# Altium schematic symbol library VC099_V13_20211125_Library.SchLib: 284 symbols (part 8 of 28)
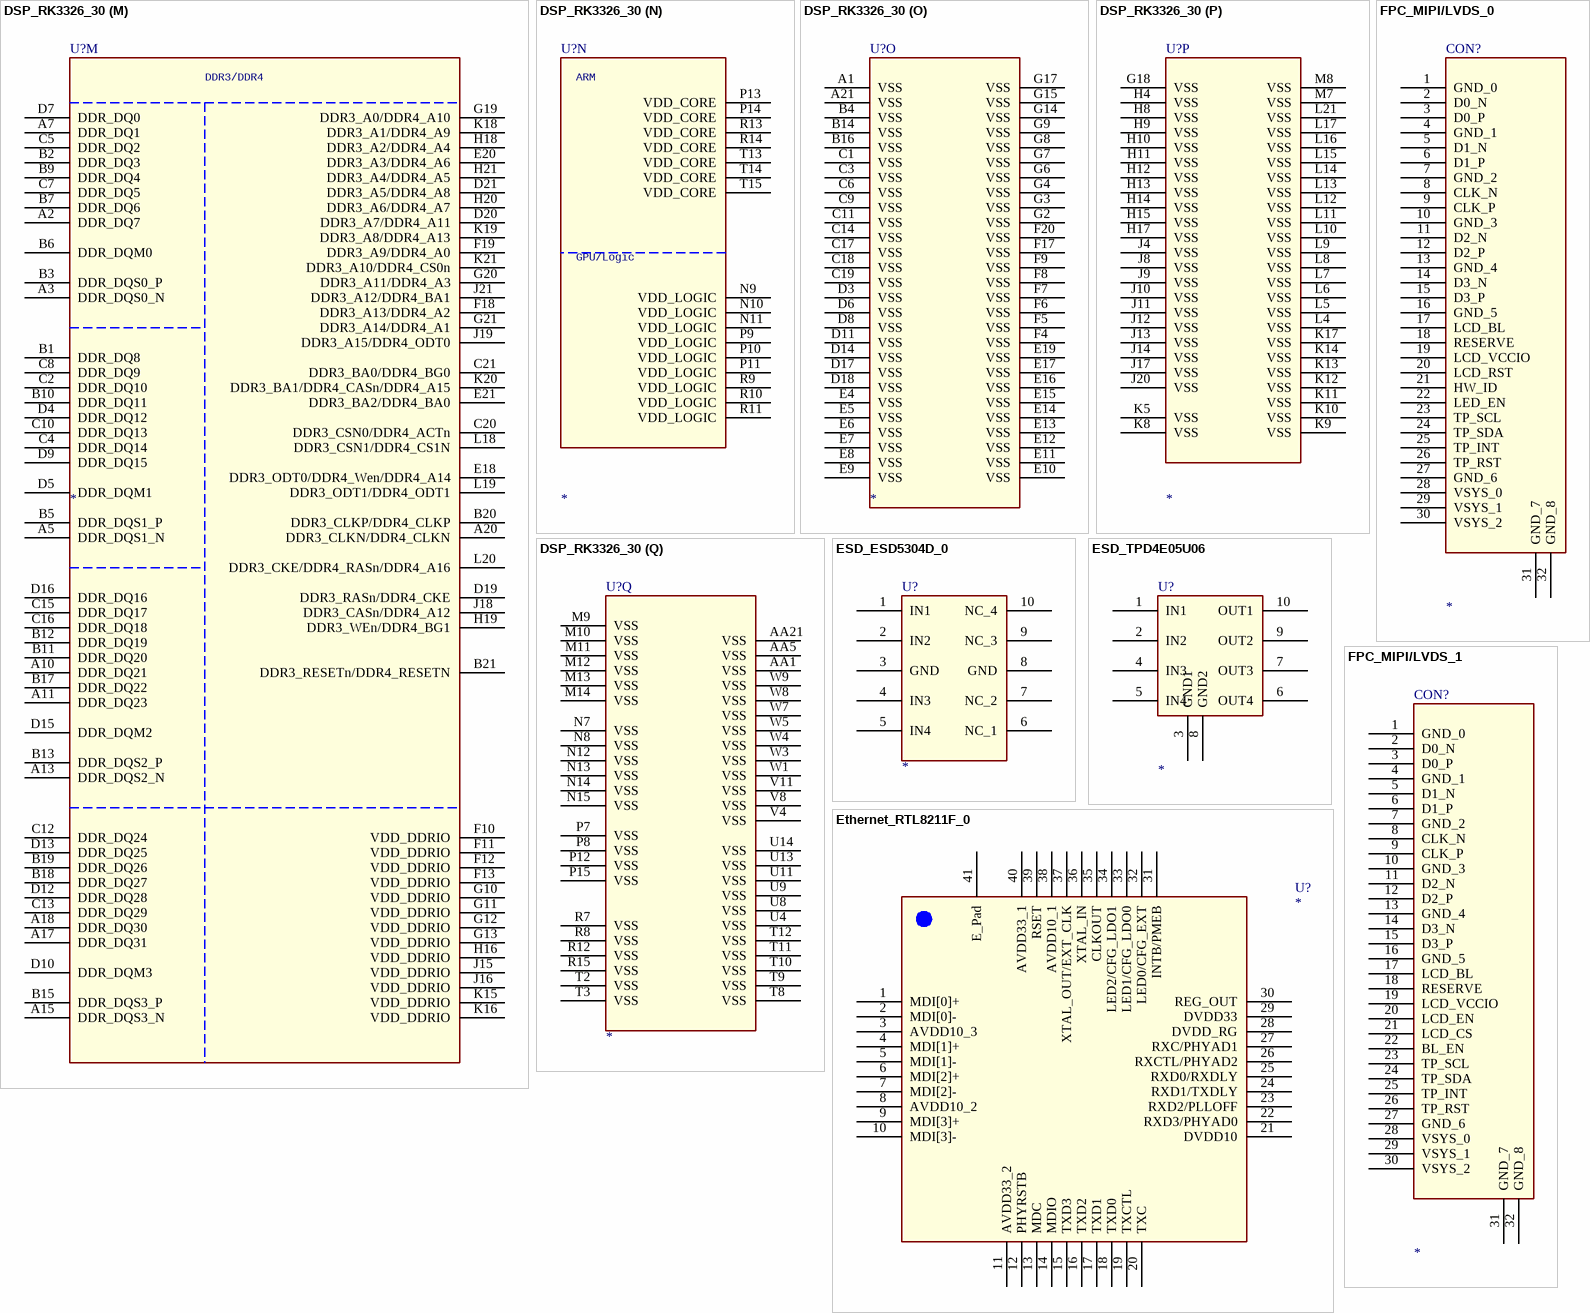
[diagram p370: symbols DSP_RK3326_30 to FPC_MIPI/LVDS_1]

## DSP_RK3326_30
designator U?
footprint RK3228H_21X21
part A pins: AA2 HDMI_TX0P, AA4 HDMI_TX2N, AA8 FEPHY_RXN, AA9 FEPHY_TXN, U5 USB20_AVDD_1V8, U6 FEPHY_AVDD_1V8, V6 FEPHY_AVDD_1V0, V7 FEPHY_EXTRES, W2 HDMI_TXCLKN, Y1 HDMI_TXCLKP, Y2 HDMI_TX0N, Y3 HDMI_TX1N, Y4 HDMI_TX1P, Y5 HDMI_TX2P, Y8 FEPHY_RXP
part B pins: K6 VCCIO_PMU, R1 XIN24M, R3 GPIO0_A2/CLKOUT_GMAC_M0/SPDIF_TX_M2_d, T1 XOUT24M, U3 GPIO0_A4/HDMI_HPD_d, V1 I2C3_SCL/HDMI_SCL_od, V2 HDMI_CEC_od, V3 I2C3_SDA/HDMI_SDA_od
part C pins: K1 USB30_DP, K2 USB30_DM, L3 GPIO0_A0/CLKOUT_WIFI_M0_d, M2 VDAC_IOUT, M3 USB0_ID, M4 HDMI_EXTR, P6 HDMI_AVDD_1V8, R4 CODEC_AVSS, R5 VSS (power), T4 CODEC_VCM
part D pins: AA11 SDMMC1_D0, AA12 SDMMC1_CLK, AA13 GPIO1_A3/SDMMC0_D3/JTAG_TMS_u, U7 VCCIO3, W10 GPIO0_D6/FEPHY_LED_SPEED10/SDMMC0_PWREN_M1_d, W11 GPIO1_A1/SDMMC0_D1/UART2_RX_M0_u, W12 GPIO1_A6/SDMMC0_CLK/TEST_CLK0_d, W13 GPIO1_A2/SDMMC0_D2/JTAG_TCK_u, Y11 SDMMC1_D1, Y12 SDMMC1_CMD, Y13 GPIO1_A4/SDMMC0_CMD_u
part E pins: AA15 GPIO1_B1/UART0_TX/GMAC_TXD0_M1_u, AA17 GPIO1_D0/I2S2_SDI_M0/GMAC_RXER_M1/PDM_SDI1_M1_d, AA19 GPIO1_C0/SDMMC1_D2/GMAC_TXD3_M1_u, AA20 GPIO1_B4/SDMMC1_CLK/GMAC_TXCLK_M1_d, U12 VCCIO4, W15 GPIO1_C5/I2S2_MCLK/GMAC_CLK_M1_d, W16 GPIO1_C6/I2S2_SCLK_M0/GMAC_RXDV_M1/PDM_CLK_M1_u, W17 GPIO1_C7/I2S2_LRCK_TX_M0/GMAC_MDC_M1/PDM_SDI0_M1_d, W18 GPIO1_B7/SDMMC1_D1/GMAC_RXD2_M1_u, W19 GPIO1_B6/SDMMC1_D0/GMAC_RXD3_M1_u, W20 GPIO1_C2/SDMMC1_PWREN/GMAC_CRS_M1_d, W21 GPIO3_C0/EMMC_D5_u, Y15 GPIO1_B0/UART0_RX/GMAC_TXD1_M1_u, Y17 GPIO1_D1/I2S2_SDO_M0/GMAC_TXEN_M1/PDM_SDI2_M1_d, Y19 GPIO1_C1/SDMMC1_D3/GMAC_TXD2_M1_u, Y20 GPIO1_B5/SDMMC1_CMD/GMAC_RXCLK_M1_u, Y21 GPIO1_C3/SDMMC1_DET/GMAC_MDIO_M1/PDM_FSYNC_M1_u
part F pins: M20 GPIO2_D2/USB20_DRV_d, M21 GPIO2_A2/IR_RX/POWERSTATE2_u, P16 EFUSE_VP, P19 GPIO2_A0/UART2_TX_M1/POWERSTATE0_d, P20 GPIO2_A1/UART2_RX_M1/POWERSTATE1_u, P21 NPOR_u, R16 VCCIO5, R17 GPIO2_D1/I2C0_SDA/FEPHY_LED_DATA_M1_u, R18 GPIO2_C2/I2S1_SCLK/PDM_CLK_M0/TSP_D7_M1/CIF_D7_M1_d, R19 GPIO3_C6/EMMC_PWREN_d, R20 GPIO3_C3/EMMC_CMD_u, R21 GPIO3_C5/EMMC_CLKOUT_u, T16 GPIO2_B4/SPI_CSN1_M0/FLASH_VOL_SEL_u, T17 VCCIO2, T18 GPIO3_C1/EMMC_D6_u, T19 GPIO3_C2/EMMC_D7_u, T20 LCD_D16, T21 LCD_D17, U15 VSS (power), U16 GPIO2_C3/I2S1_SDI/PDM_SDI0_M0/CARD_CLK_M1_u, U17 GPIO2_A3/EFUSE_PWREN/POWERSTATE3_u, U18 GPIO2_D7/EMMC_D4_u, U19 GPIO0_A7/EMMC_D0_u, U20 GPIO2_D4/EMMC_D1_u, U21 GPIO2_D5/EMMC_D2_u, V12 GPIO1_D2/I2S2_LRCK_RX_M0/CLKOUT_GMAC_M2/PDM_SDI3_M1_d, V13 GPIO1_B3/UART0_CTSN/GMAC_RXD0_M1_d, V14 GPIO1_D4/CLK32KOUT_M1_d, V15 GPIO2_C0/I2S1_LRCK_RX/TSP_D5_M1/CIF_D5_M1_u, V16 GPIO2_C6/I2S1_SDIO3/PDM_SDI3_M0/CARD_IO_M1_u, V17 GPIO2_C5/I2S1_SDIO2/PDM_SDI2_M0/CARD_DET_M1_u, V18 GPIO2_C4/I2S1_SDIO1/PDM_SDI1_M0/CARD_RST_M1_u, V19 GPIO2_D6/EMMC_D3_u, V20 BIAS, V21 LCD_CLK, W14 GPIO1_B2/UART0_RTSN/GMAC_RXD1_M1_d
part G pins: D1 GPIO3_A5/TSP_D1/CIF_D1/SDMMC0EXT_D1/UART1_RTSN/USB3PHY_DEBUG5_u, D2 GPIO3_A1/TSP_FAIL/CIF_HREF/SDMMC0EXT_DET/SPI_TXD_M2/USB3PHY_DEBUG2/I2S2_SDO_M1_u, E1 GPIO3_A2/TSP_CLK/CIF_CLKIN/SDMMC0EXT_CLK/SPI_RXD_M2/USB3PHY_DEBUG3/I2S2_SDI_M1_d, E2 GPIO3_A4/TSP_D0/CIF_D0/SDMMC0EXT_D0/UART1_TX/USB3PHY_DEBUG4_u, E3 GPIO3_A0/TSP_VALID/CIF_VSYNC/SDMMC0EXT_CMD/SPI_CLK_M2/USB3PHY_DEBUG1/I2S2_SCLK_M1_u, F1 GPIO3_A7/TSP_D3/CIF_D3/SDMMC0EXT_D3/UART1_CTSN/USB3PHY_DEBUG7_u, F2 GPIO3_A6/TSP_D2/CIF_D2/SDMMC0EXT_D2/UART1_RX/USB3PHY_DEBUG6_u, F3 GPIO3_B0/TSP_D4/CIF_D4/SPI_CSN0_M2/I2S2_LRCK_TX_M1/USB3PHY_DEBUG8/I2S2_LRCK_RX_M1_d, H2 USB30_TXN, H3 USB30_TXP, H6 VCCIO6, J2 USB30_RXP, J3 USB30_RXN
part H pins: M15 TEST_d, M16 SARADC_AVDD_1V8, M17 SARADC_IN1, M18 SARADC_IN0, M19 GPIO2_A6/PWM2_u, N16 OTP_VCC18, N17 GPIO2_C7/I2S1_SDO/PDM_FSYNC_M0_u, N18 GPIO2_B7/I2S1_MCLK/TSP_SYNC_M1/CIF_CLKOUT_M1_d, N19 GPIO2_A4/PWM0/I2C1_SDA_u, N20 GPIO2_A5/PWM1/I2C1_SCL_u, P17 GPIO2_D0/I2C0_SCL/FEPHY_LED_LINK_M1_u, P18 GPIO2_C1/I2S1_LRCK_TX/SPDIF_TX_M1/TSP_D6_M1/CIF_D6_M1_u
part I pins: U10 GPIO1_A0/SDMMC0_D0/UART2_TX_M0_u, V9 GPIO0_D3/SPDIF_TX_M0_d, V10 GPIO1_A5/SDMMC0_DETN_u, Y9 FEPHY_TXP
part J pins: M1 PCLK, N1 CODEC_AOR, N2 GPIO_MUTE_d, N3 VSS (power), P2 CODEC_AOL, P3 VSS (power), P4 VDAC_IREF, R2 VSS (power)
part K pins: AA6 USB0_DP, AA7 USB1_DP, T5 USB20_AVDD_3V3, T6 USB20_VBUS, T7 VCCIO1, V5 USB20_DVDD_1V0, W6 USB20_EXTR, Y6 USB0_DM, Y7 USB1_DM
part L pins: G5 USB30_EXTR, H5 PLL_AVDD_1V8, H7 PLL_DVDD_1V0, J5 USB30_AVDD_1V8, J6 USB30_AVDD_3V3, J7 USB30_DVDD_1V0, K3 VSS (power), K7 USB30_VBUS, M5 VDD_PMU, M6 HDMI_AVDD_1V0, N5 CODEC_AVDD_1V8, N6 VDAC_AVDD_1V8
part M pins: A2 DDR_DQ7, A3 DDR_DQS0_N, A5 DDR_DQS1_N, A7 DDR_DQ1, A10 DDR_DQ21, A11 DDR_DQ23, A13 DDR_DQS2_N, A15 DDR_DQS3_N, A17 DDR_DQ31, A18 DDR_DQ30, A20 DDR3_CLKN/DDR4_CLKN, B1 DDR_DQ8, B2 DDR_DQ3, B3 DDR_DQS0_P, B5 DDR_DQS1_P, B6 DDR_DQM0, B7 DDR_DQ6, B9 DDR_DQ4, B10 DDR_DQ11, B11 DDR_DQ20, B12 DDR_DQ19, B13 DDR_DQS2_P, B15 DDR_DQS3_P, B17 DDR_DQ22, B18 DDR_DQ27, B19 DDR_DQ26, B20 DDR3_CLKP/DDR4_CLKP, B21 DDR3_RESETn/DDR4_RESETN, C2 DDR_DQ10, C4 DDR_DQ14, C5 DDR_DQ2, C7 DDR_DQ5, C8 DDR_DQ9, C10 DDR_DQ13, C12 DDR_DQ24, C13 DDR_DQ29, C15 DDR_DQ17, C16 DDR_DQ18, C20 DDR3_CSN0/DDR4_ACTn, C21 DDR3_BA0/DDR4_BG0, D4 DDR_DQ12, D5 DDR_DQM1, D7 DDR_DQ0, D9 DDR_DQ15, D10 DDR_DQM3, D12 DDR_DQ28, D13 DDR_DQ25, D15 DDR_DQM2, D16 DDR_DQ16, D19 DDR3_RASn/DDR4_CKE, D20 DDR3_A7/DDR4_A11, D21 DDR3_A5/DDR4_A8, E18 DDR3_ODT0/DDR4_Wen/DDR4_A14, E20 DDR3_A3/DDR4_A6, E21 DDR3_BA2/DDR4_BA0, F10 VDD_DDRIO (power), F11 VDD_DDRIO (power), F12 VDD_DDRIO (power), F13 VDD_DDRIO (power), F18 DDR3_A13/DDR4_A2, F19 DDR3_A9/DDR4_A0, G10 VDD_DDRIO (power), G11 VDD_DDRIO (power), G12 VDD_DDRIO (power), G13 VDD_DDRIO (power), G19 DDR3_A0/DDR4_A10, G20 DDR3_A11/DDR4_A3, G21 DDR3_A14/DDR4_A1, H16 VDD_DDRIO (power), H18 DDR3_A2/DDR4_A4, H19 DDR3_WEn/DDR4_BG1, H20 DDR3_A6/DDR4_A7, H21 DDR3_A4/DDR4_A5, J15 VDD_DDRIO (power), J16 VDD_DDRIO (power), J18 DDR3_CASn/DDR4_A12, J19 DDR3_A15/DDR4_ODT0, J21 DDR3_A12/DDR4_BA1, K15 VDD_DDRIO (power), K16 VDD_DDRIO (power), K18 DDR3_A1/DDR4_A9, K19 DDR3_A8/DDR4_A13, K20 DDR3_BA1/DDR4_CASn/DDR4_A15, K21 DDR3_A10/DDR4_CS0n, L18 DDR3_CSN1/DDR4_CS1N, L19 DDR3_ODT1/DDR4_ODT1, L20 DDR3_CKE/DDR4_RASn/DDR4_A16
part N pins: N9 VDD_LOGIC (power), N10 VDD_LOGIC (power), N11 VDD_LOGIC (power), P9 VDD_LOGIC (power), P10 VDD_LOGIC (power), P11 VDD_LOGIC (power), P13 VDD_CORE (power), P14 VDD_CORE (power), R9 VDD_LOGIC (power), R10 VDD_LOGIC (power), R11 VDD_LOGIC (power), R13 VDD_CORE (power), R14 VDD_CORE (power), T13 VDD_CORE (power), T14 VDD_CORE (power), T15 VDD_CORE (power)
part O pins: A1 VSS (power), A21 VSS (power), B4 VSS (power), B14 VSS (power), B16 VSS (power), C1 VSS (power), C3 VSS (power), C6 VSS (power), C9 VSS (power), C11 VSS (power), C14 VSS (power), C17 VSS (power), C18 VSS (power), C19 VSS (power), D3 VSS (power), D6 VSS (power), D8 VSS (power), D11 VSS (power), D14 VSS (power), D17 VSS (power), D18 VSS (power), E4 VSS (power), E5 VSS (power), E6 VSS (power), E7 VSS (power), E8 VSS (power), E9 VSS (power), E10 VSS (power), E11 VSS (power), E12 VSS (power), E13 VSS (power), E14 VSS (power), E15 VSS (power), E16 VSS (power), E17 VSS (power), E19 VSS (power), F4 VSS (power), F5 VSS (power), F6 VSS (power), F7 VSS (power), F8 VSS (power), F9 VSS (power), F17 VSS (power), F20 VSS (power), G2 VSS (power), G3 VSS (power), G4 VSS (power), G6 VSS (power), G7 VSS (power), G8 VSS (power), G9 VSS (power), G14 VSS (power), G15 VSS (power), G17 VSS (power)
part P pins: G18 VSS (power), H4 VSS (power), H8 VSS (power), H9 VSS (power), H10 VSS (power), H11 VSS (power), H12 VSS (power), H13 VSS (power), H14 VSS (power), H15 VSS (power), H17 VSS (power), J4 VSS (power), J8 VSS (power), J9 VSS (power), J10 VSS (power), J11 VSS (power), J12 VSS (power), J13 VSS (power), J14 VSS (power), J17 VSS (power), J20 VSS (power), K5 VSS (power), K8 VSS (power), K9 VSS (power), K10 VSS (power), K11 VSS (power), K12 VSS (power), K13 VSS (power), K14 VSS (power), K17 VSS (power), L4 VSS (power), L5 VSS (power), L6 VSS (power), L7 VSS (power), L8 VSS (power), L9 VSS (power), L10 VSS (power), L11 VSS (power), L12 VSS (power), L13 VSS (power), L14 VSS (power), L15 VSS (power), L16 VSS (power), L17 VSS (power), L21 VSS (power), M7 VSS (power), M8 VSS (power)
part Q pins: AA1 VSS (power), AA5 VSS (power), AA21 VSS (power), M9 VSS (power), M10 VSS (power), M11 VSS (power), M12 VSS (power), M13 VSS (power), M14 VSS (power), N7 VSS (power), N8 VSS (power), N12 VSS (power), N13 VSS (power), N14 VSS (power), N15 VSS (power), P7 VSS (power), P8 VSS (power), P12 VSS (power), P15 VSS (power), R7 VSS (power), R8 VSS (power), R12 VSS (power), R15 VSS (power), T2 VSS (power), T3 VSS (power), T8 VSS (power), T9 VSS (power), T10 VSS (power), T11 VSS (power), T12 VSS (power), U4 VSS (power), U8 VSS (power), U9 VSS (power), U11 VSS (power), U13 VSS (power), U14 VSS (power), V4 VSS (power), V8 VSS (power), V11 VSS (power), W1 VSS (power), W3 VSS (power), W4 VSS (power), W5 VSS (power), W7 VSS (power), W8 VSS (power), W9 VSS (power)
part A text: OSC; PLL Power; OTP/eFUSE; PMU IO
part H text: MIPI OUT
part I text: TSADC
part J text: I2S
part K text: PMU IO
part L text: MIPI CIS
part M text: DDR3/DDR4
part N text: ARM; GPU/Logic

## ESD_ESD5304D_0
designator U?
pins: 1 IN1, 2 IN2, 3 GND (power), 4 IN3, 5 IN4, 6 NC_1, 7 NC_2, 8 GND (power), 9 NC_3, 10 NC_4

## ESD_TPD4E05U06
designator U?
pins: 1 IN1, 2 IN2, 3 GND1, 4 IN3, 5 IN4, 6 OUT4, 7 OUT3, 8 GND2, 9 OUT2, 10 OUT1

## Ethernet_RTL8211F_0
designator U?
footprint QFN40_5R00X5R00X0R80_T
pins: 1 MDI[0]+, 2 MDI[0]-, 3 AVDD10_3 (power), 4 MDI[1]+, 5 MDI[1]-, 6 MDI[2]+, 7 MDI[2]-, 8 AVDD10_2 (power), 9 MDI[3]+, 10 MDI[3]-, 11 AVDD33_2 (power), 12 PHYRSTB, 13 MDC, 14 MDIO, 15 TXD3, 16 TXD2, 17 TXD1, 18 TXD0, 19 TXCTL, 20 TXC, 21 DVDD10 (power), 22 RXD3/PHYAD0, 23 RXD2/PLLOFF, 24 RXD1/TXDLY, 25 RXD0/RXDLY, 26 RXCTL/PHYAD2, 27 RXC/PHYAD1, 28 DVDD_RG, 29 DVDD33 (power), 30 REG_OUT, 31 INTB/PMEB, 32 LED0/CFG_EXT, 33 LED1/CFG_LDO0, 34 LED2/CFG_LDO1, 35 CLKOUT, 36 XTAL_IN, 37 XTAL_OUT/EXT_CLK, 38 AVDD10_1 (power), 39 RSET, 40 AVDD33_1 (power), 41 E_Pad

## FPC_MIPI/LVDS_0
designator CON?
pins: 1 GND_0, 2 D0_N, 3 D0_P, 4 GND_1, 5 D1_N, 6 D1_P, 7 GND_2, 8 CLK_N, 9 CLK_P, 10 GND_3, 11 D2_N, 12 D2_P, 13 GND_4, 14 D3_N, 15 D3_P, 16 GND_5, 17 LCD_BL, 18 RESERVE, 19 LCD_VCCIO (power), 20 LCD_RST, 21 HW_ID, 22 LED_EN, 23 TP_SCL, 24 TP_SDA, 25 TP_INT, 26 TP_RST, 27 GND_6, 28 VSYS_0 (power), 29 VSYS_1 (power), 30 VSYS_2 (power), 31 GND_7, 32 GND_8

## FPC_MIPI/LVDS_1
designator CON?
pins: 1 GND_0, 2 D0_N, 3 D0_P, 4 GND_1, 5 D1_N, 6 D1_P, 7 GND_2, 8 CLK_N, 9 CLK_P, 10 GND_3, 11 D2_N, 12 D2_P, 13 GND_4, 14 D3_N, 15 D3_P, 16 GND_5, 17 LCD_BL, 18 RESERVE, 19 LCD_VCCIO (power), 20 LCD_EN, 21 LCD_CS, 22 BL_EN, 23 TP_SCL, 24 TP_SDA, 25 TP_INT, 26 TP_RST, 27 GND_6, 28 VSYS_0 (power), 29 VSYS_1 (power), 30 VSYS_2 (power), 31 GND_7, 32 GND_8

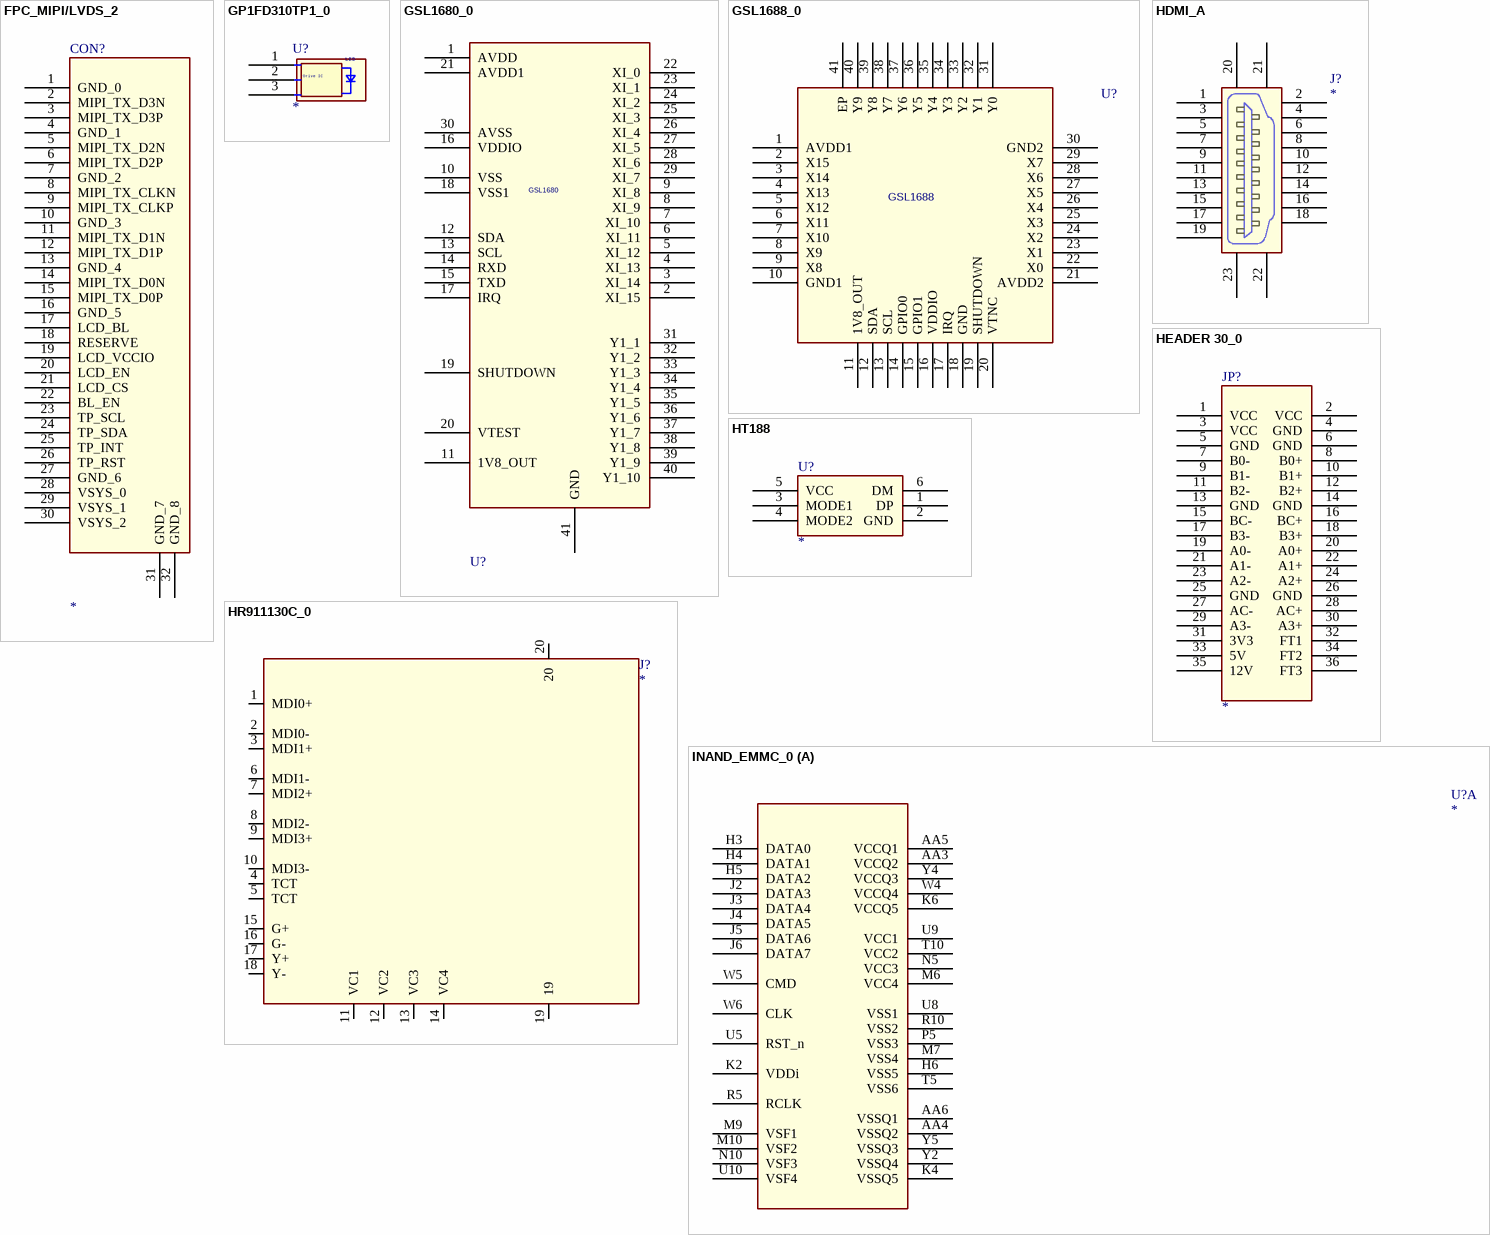
[diagram p115: symbols FPC_MIPI/LVDS_2 to INAND_EMMC_0]

## FPC_MIPI/LVDS_2
designator CON?
pins: 1 GND_0, 2 MIPI_TX_D3N, 3 MIPI_TX_D3P, 4 GND_1, 5 MIPI_TX_D2N, 6 MIPI_TX_D2P, 7 GND_2, 8 MIPI_TX_CLKN, 9 MIPI_TX_CLKP, 10 GND_3, 11 MIPI_TX_D1N, 12 MIPI_TX_D1P, 13 GND_4, 14 MIPI_TX_D0N, 15 MIPI_TX_D0P, 16 GND_5, 17 LCD_BL, 18 RESERVE, 19 LCD_VCCIO (power), 20 LCD_EN, 21 LCD_CS, 22 BL_EN, 23 TP_SCL, 24 TP_SDA, 25 TP_INT, 26 TP_RST, 27 GND_6, 28 VSYS_0 (power), 29 VSYS_1 (power), 30 VSYS_2 (power), 31 GND_7, 32 GND_8

## GP1FD310TP1_0
designator U?
pins: 1 Vin, 2 Vcc, 3 GND
text: LED; Drive IC

## GSL1680_0
designator U?, comment GSL1680
pins: 1 AVDD, 2 XI_15, 3 XI_14, 4 XI_13, 5 XI_12, 6 XI_11, 7 XI_10, 8 XI_9, 9 XI_8, 10 VSS, 11 1V8_OUT, 12 SDA, 13 SCL, 14 RXD, 15 TXD, 16 VDDIO, 17 IRQ, 18 VSS1, 19 SHUTDOWN, 20 VTEST, 21 AVDD1, 22 XI_0, 23 XI_1, 24 XI_2, 25 XI_3, 26 XI_4, 27 XI_5, 28 XI_6, 29 XI_7, 30 AVSS, 31 Y1_1, 32 Y1_2, 33 Y1_3, 34 Y1_4, 35 Y1_5, 36 Y1_6, 37 Y1_7, 38 Y1_8, 39 Y1_9, 40 Y1_10, 41 GND

## GSL1688_0
designator U?, comment GSL1688
pins: 1 AVDD1, 2 X15, 3 X14, 4 X13, 5 X12, 6 X11, 7 X10, 8 X9, 9 X8, 10 GND1, 11 1V8_OUT, 12 SDA, 13 SCL, 14 GPIO0, 15 GPIO1, 16 VDDIO, 17 IRQ, 18 GND, 19 SHUTDOWN, 20 VTNC, 21 AVDD2, 22 X0, 23 X1, 24 X2, 25 X3, 26 X4, 27 X5, 28 X6, 29 X7, 30 GND2, 31 Y0, 32 Y1, 33 Y2, 34 Y3, 35 Y4, 36 Y5, 37 Y6, 38 Y7, 39 Y8, 40 Y9, 41 EP

## HDMI_A
designator J?
pins: 1 $PIN0, 2, 3, 4, 5, 6, 7, 8, 9, 10, 11, 12, 13, 14, 15, 16, 17, 18, 19, 20, 21, 22, 23

## HEADER 30_0
designator JP?
pins: 1 VCC, 2 VCC, 3 VCC, 4 GND, 5 GND, 6 GND, 7 B0-, 8 B0+, 9 B1-, 10 B1+, 11 B2-, 12 B2+, 13 GND, 14 GND, 15 BC-, 16 BC+, 17 B3-, 18 B3+, 19 A0-, 20 A0+, 21 A1-, 22 A1+, 23 A2-, 24 A2+, 25 GND, 26 GND, 27 AC-, 28 AC+, 29 A3-, 30 A3+, 31 3V3, 32 FT1, 33 5V, 34 FT2, 35 12V, 36 FT3

## HR911130C_0
designator J?
VAL: J00-0061; DESIG: 10/100 base TX LXT971A; BOI: RJ45; FAB: PULSE; DEV: CON_PULSE_J00-61; REF: J00-0061
footprint RJ45_PULSE
pins: 1 MDI0+, 2 MDI0-, 3 MDI1+, 4 TCT, 5 TCT, 6 MDI1-, 7 MDI2+, 8 MDI2-, 9 MDI3+, 10 MDI3-, 11 VC1, 12 VC2, 13 VC3, 14 VC4, 15 G+, 16 G-, 17 Y+, 18 Y-, 19, 20

## HT188
designator U?
pins: 1 DP, 2 GND, 3 MODE1, 4 MODE2, 5 VCC, 6 DM

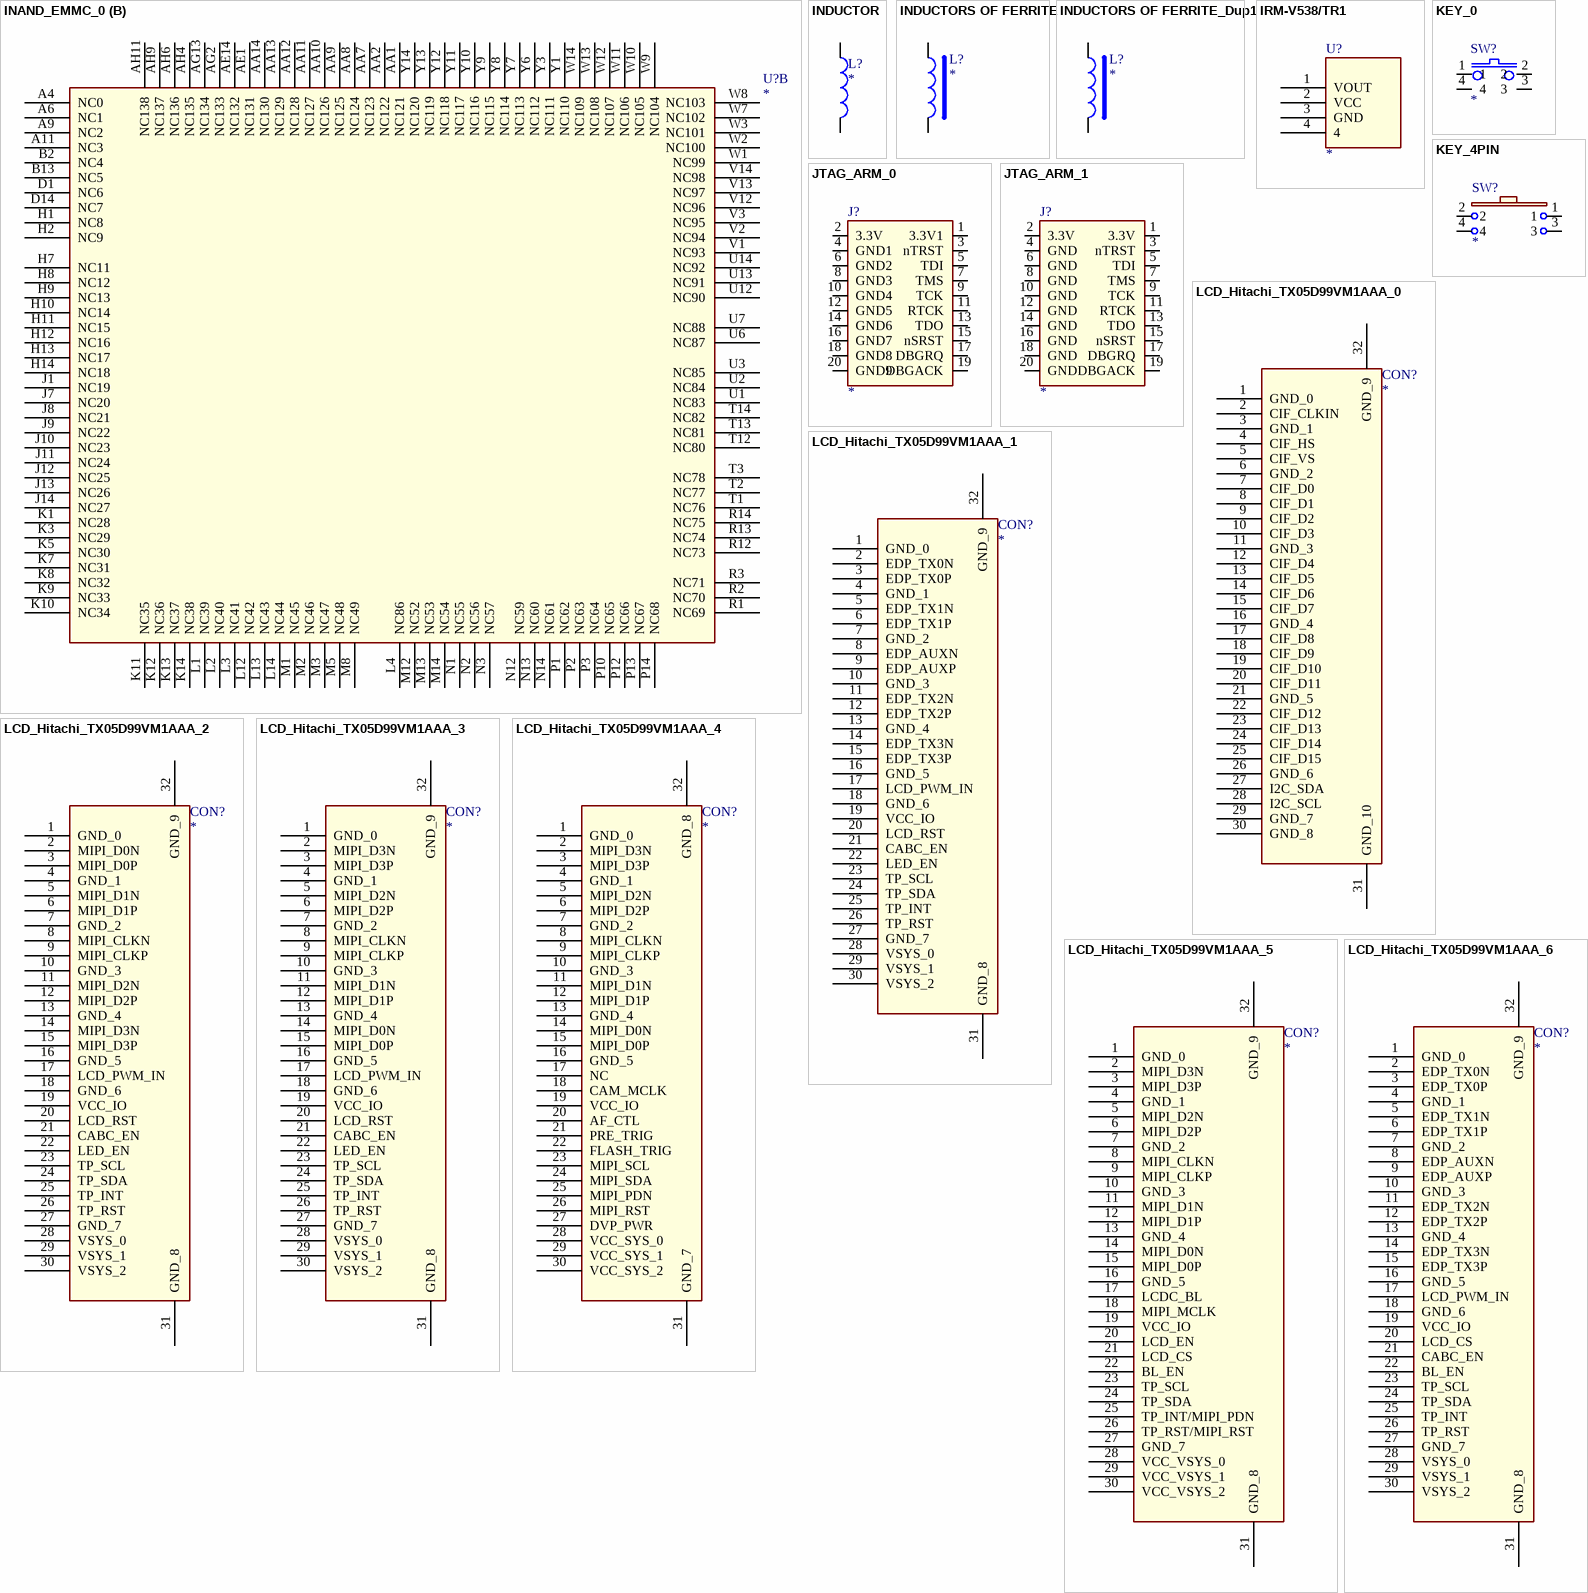
[diagram p116: symbols INAND_EMMC_0 to LCD_Hitachi_TX05D99VM1AAA_6]

## INAND_EMMC_0
designator U?
part A pins: AA3 VCCQ2, AA4 VSSQ2, AA5 VCCQ1, AA6 VSSQ1, H3 DATA0, H4 DATA1, H5 DATA2, H6 VSS5, J2 DATA3, J3 DATA4, J4 DATA5, J5 DATA6, J6 DATA7, K2 VDDi, K4 VSSQ5, K6 VCCQ5, M6 VCC4, M7 VSS4, M9 VSF1, M10 VSF2, N5 VCC3, N10 VSF3, P5 VSS3, R5 RCLK, R10 VSS2, T5 VSS6, T10 VCC2, U5 RST_n, U8 VSS1, U9 VCC1, U10 VSF4, W4 VCCQ4, W5 CMD, W6 CLK, Y2 VSSQ4, Y4 VCCQ3, Y5 VSSQ3
part B pins: A4 NC0, A6 NC1, A9 NC2, A11 NC3, AA1 NC121, AA2 NC122, AA7 NC123, AA8 NC124, AA9 NC125, AA10 NC126, AA11 NC127, AA12 NC128, AA13 NC129, AA14 NC130, AE1 NC131, AE14 NC132, AG2 NC133, AG13 NC134, AH4 NC135, AH6 NC136, AH9 NC137, AH11 NC138, B2 NC4, B13 NC5, D1 NC6, D14 NC7, H1 NC8, H2 NC9, H7 NC11, H8 NC12, H9 NC13, H10 NC14, H11 NC15, H12 NC16, H13 NC17, H14 NC18, J1 NC19, J7 NC20, J8 NC21, J9 NC22, J10 NC23, J11 NC24, J12 NC25, J13 NC26, J14 NC27, K1 NC28, K3 NC29, K5 NC30, K7 NC31, K8 NC32, K9 NC33, K10 NC34, K11 NC35, K12 NC36, K13 NC37, K14 NC38, L1 NC39, L2 NC40, L3 NC41, L4 NC86, L12 NC42, L13 NC43, L14 NC44, M1 NC45, M2 NC46, M3 NC47, M5 NC48, M8 NC49, M12 NC52, M13 NC53, M14 NC54, N1 NC55, N2 NC56, N3 NC57, N12 NC59, N13 NC60, N14 NC61, P1 NC62, P2 NC63, P3 NC64, P10 NC65, P12 NC66, P13 NC67, P14 NC68, R1 NC69, R2 NC70, R3 NC71, R12 NC73, R13 NC74, R14 NC75, T1 NC76, T2 NC77, T3 NC78, T12 NC80, T13 NC81, T14 NC82, U1 NC83, U2 NC84, U3 NC85, U6 NC87, U7 NC88, U12 NC90, U13 NC91, U14 NC92, V1 NC93, V2 NC94, V3 NC95, V12 NC96, V13 NC97, V14 NC98, W1 NC99, W2 NC100, W3 NC101, W7 NC102, W8 NC103, W9 NC104, W10 NC105, W11 NC106, W12 NC107, W13 NC108, W14 NC109, Y1 NC110, Y3 NC111, Y6 NC112, Y7 NC113, Y8 NC114, Y9 NC115, Y10 NC116, Y11 NC117, Y12 NC118, Y13 NC119, Y14 NC120

## INDUCTOR
designator L?
pins: 1, 2

## INDUCTORS OF FERRITE
designator L?
pins: 1, 2

## INDUCTORS OF FERRITE_Dup1
designator L?
pins: 1, 2

## IRM-V538/TR1
designator U?
footprint IRM-V538/TR1
pins: 1 VOUT, 2 VCC, 3 GND, 4

## JTAG_ARM_0
designator J?
footprint JTAG_ARM
pins: 1 3.3V1, 2 3.3V, 3 nTRST, 4 GND1, 5 TDI, 6 GND2, 7 TMS, 8 GND3, 9 TCK, 10 GND4, 11 RTCK, 12 GND5, 13 TDO, 14 GND6, 15 nSRST, 16 GND7, 17 DBGRQ, 18 GND8, 19 DBGACK, 20 GND9

## JTAG_ARM_1
designator J?
footprint JTAG_ARM
pins: 1 3.3V, 2 3.3V, 3 nTRST, 4 GND, 5 TDI, 6 GND, 7 TMS, 8 GND, 9 TCK, 10 GND, 11 RTCK, 12 GND, 13 TDO, 14 GND, 15 nSRST, 16 GND, 17 DBGRQ, 18 GND, 19 DBGACK, 20 GND

## KEY_0
designator SW?
pins: 1, 2, 3, 4

## KEY_4PIN
designator SW?
footprint YC-6615B
pins: 1, 2, 3, 4

## LCD_Hitachi_TX05D99VM1AAA_0
designator CON?
pins: 1 GND_0, 2 CIF_CLKIN, 3 GND_1, 4 CIF_HS, 5 CIF_VS, 6 GND_2, 7 CIF_D0, 8 CIF_D1, 9 CIF_D2, 10 CIF_D3, 11 GND_3, 12 CIF_D4, 13 CIF_D5, 14 CIF_D6, 15 CIF_D7, 16 GND_4, 17 CIF_D8, 18 CIF_D9, 19 CIF_D10 (power), 20 CIF_D11, 21 GND_5, 22 CIF_D12, 23 CIF_D13, 24 CIF_D14, 25 CIF_D15, 26 GND_6, 27 I2C_SDA, 28 I2C_SCL (power), 29 GND_7 (power), 30 GND_8 (power), 31 GND_10, 32 GND_9

## LCD_Hitachi_TX05D99VM1AAA_1
designator CON?
pins: 1 GND_0, 2 EDP_TX0N, 3 EDP_TX0P, 4 GND_1, 5 EDP_TX1N, 6 EDP_TX1P, 7 GND_2, 8 EDP_AUXN, 9 EDP_AUXP, 10 GND_3, 11 EDP_TX2N, 12 EDP_TX2P, 13 GND_4, 14 EDP_TX3N, 15 EDP_TX3P, 16 GND_5, 17 LCD_PWM_IN, 18 GND_6, 19 VCC_IO (power), 20 LCD_RST, 21 CABC_EN, 22 LED_EN, 23 TP_SCL, 24 TP_SDA, 25 TP_INT, 26 TP_RST, 27 GND_7, 28 VSYS_0 (power), 29 VSYS_1 (power), 30 VSYS_2 (power), 31 GND_8, 32 GND_9

## LCD_Hitachi_TX05D99VM1AAA_2
designator CON?
pins: 1 GND_0, 2 MIPI_D0N, 3 MIPI_D0P, 4 GND_1, 5 MIPI_D1N, 6 MIPI_D1P, 7 GND_2, 8 MIPI_CLKN, 9 MIPI_CLKP, 10 GND_3, 11 MIPI_D2N, 12 MIPI_D2P, 13 GND_4, 14 MIPI_D3N, 15 MIPI_D3P, 16 GND_5, 17 LCD_PWM_IN, 18 GND_6, 19 VCC_IO (power), 20 LCD_RST, 21 CABC_EN, 22 LED_EN, 23 TP_SCL, 24 TP_SDA, 25 TP_INT, 26 TP_RST, 27 GND_7, 28 VSYS_0 (power), 29 VSYS_1 (power), 30 VSYS_2 (power), 31 GND_8, 32 GND_9

## LCD_Hitachi_TX05D99VM1AAA_3
designator CON?
pins: 1 GND_0, 2 MIPI_D3N, 3 MIPI_D3P, 4 GND_1, 5 MIPI_D2N, 6 MIPI_D2P, 7 GND_2, 8 MIPI_CLKN, 9 MIPI_CLKP, 10 GND_3, 11 MIPI_D1N, 12 MIPI_D1P, 13 GND_4, 14 MIPI_D0N, 15 MIPI_D0P, 16 GND_5, 17 LCD_PWM_IN, 18 GND_6, 19 VCC_IO (power), 20 LCD_RST, 21 CABC_EN, 22 LED_EN, 23 TP_SCL, 24 TP_SDA, 25 TP_INT, 26 TP_RST, 27 GND_7, 28 VSYS_0 (power), 29 VSYS_1 (power), 30 VSYS_2 (power), 31 GND_8, 32 GND_9

## LCD_Hitachi_TX05D99VM1AAA_4
designator CON?
pins: 1 GND_0, 2 MIPI_D3N, 3 MIPI_D3P, 4 GND_1, 5 MIPI_D2N, 6 MIPI_D2P, 7 GND_2, 8 MIPI_CLKN, 9 MIPI_CLKP, 10 GND_3, 11 MIPI_D1N, 12 MIPI_D1P, 13 GND_4, 14 MIPI_D0N, 15 MIPI_D0P, 16 GND_5, 17 NC, 18 CAM_MCLK, 19 VCC_IO (power), 20 AF_CTL, 21 PRE_TRIG, 22 FLASH_TRIG, 23 MIPI_SCL, 24 MIPI_SDA, 25 MIPI_PDN, 26 MIPI_RST, 27 DVP_PWR, 28 VCC_SYS_0 (power), 29 VCC_SYS_1 (power), 30 VCC_SYS_2 (power), 31 GND_7, 32 GND_8

## LCD_Hitachi_TX05D99VM1AAA_5
designator CON?
pins: 1 GND_0, 2 MIPI_D3N, 3 MIPI_D3P, 4 GND_1, 5 MIPI_D2N, 6 MIPI_D2P, 7 GND_2, 8 MIPI_CLKN, 9 MIPI_CLKP, 10 GND_3, 11 MIPI_D1N, 12 MIPI_D1P, 13 GND_4, 14 MIPI_D0N, 15 MIPI_D0P, 16 GND_5, 17 LCDC_BL, 18 MIPI_MCLK, 19 VCC_IO (power), 20 LCD_EN, 21 LCD_CS, 22 BL_EN, 23 TP_SCL, 24 TP_SDA, 25 TP_INT/MIPI_PDN, 26 TP_RST/MIPI_RST, 27 GND_7, 28 VCC_VSYS_0 (power), 29 VCC_VSYS_1 (power), 30 VCC_VSYS_2 (power), 31 GND_8, 32 GND_9

## LCD_Hitachi_TX05D99VM1AAA_6
designator CON?
pins: 1 GND_0, 2 EDP_TX0N, 3 EDP_TX0P, 4 GND_1, 5 EDP_TX1N, 6 EDP_TX1P, 7 GND_2, 8 EDP_AUXN, 9 EDP_AUXP, 10 GND_3, 11 EDP_TX2N, 12 EDP_TX2P, 13 GND_4, 14 EDP_TX3N, 15 EDP_TX3P, 16 GND_5, 17 LCD_PWM_IN, 18 GND_6, 19 VCC_IO (power), 20 LCD_CS, 21 CABC_EN, 22 BL_EN, 23 TP_SCL, 24 TP_SDA, 25 TP_INT, 26 TP_RST, 27 GND_7, 28 VSYS_0 (power), 29 VSYS_1 (power), 30 VSYS_2 (power), 31 GND_8, 32 GND_9

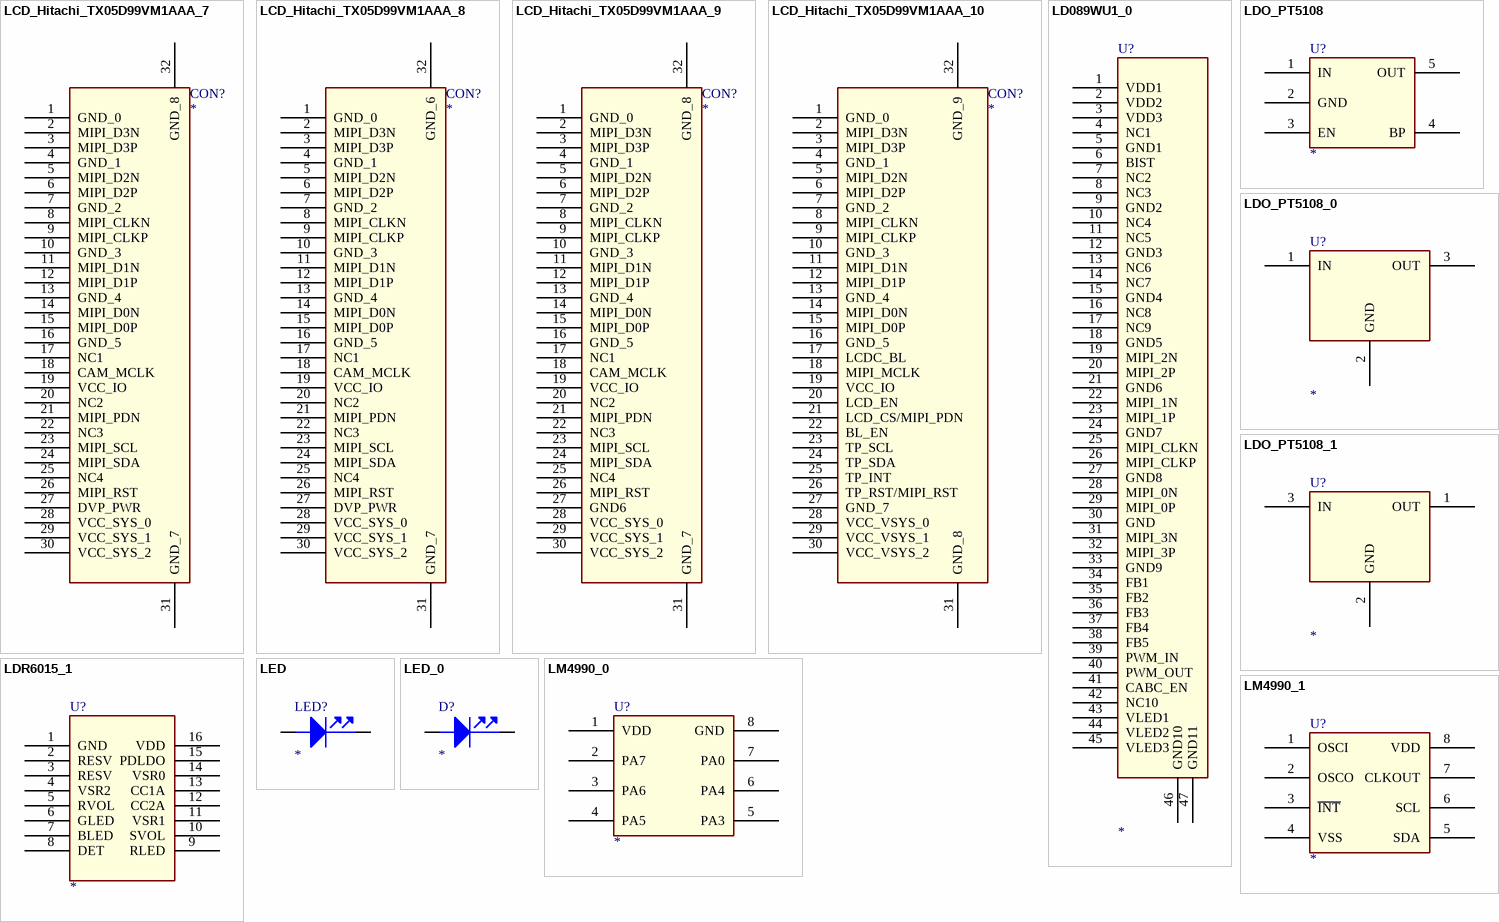
[diagram p117: symbols LCD_Hitachi_TX05D99VM1AAA_7 to LM4990_1]

## LCD_Hitachi_TX05D99VM1AAA_7
designator CON?
pins: 1 GND_0, 2 MIPI_D3N, 3 MIPI_D3P, 4 GND_1, 5 MIPI_D2N, 6 MIPI_D2P, 7 GND_2, 8 MIPI_CLKN, 9 MIPI_CLKP, 10 GND_3, 11 MIPI_D1N, 12 MIPI_D1P, 13 GND_4, 14 MIPI_D0N, 15 MIPI_D0P, 16 GND_5, 17 NC1, 18 CAM_MCLK, 19 VCC_IO (power), 20 NC2, 21 MIPI_PDN, 22 NC3, 23 MIPI_SCL, 24 MIPI_SDA, 25 NC4, 26 MIPI_RST, 27 DVP_PWR, 28 VCC_SYS_0 (power), 29 VCC_SYS_1 (power), 30 VCC_SYS_2 (power), 31 GND_7, 32 GND_8

## LCD_Hitachi_TX05D99VM1AAA_8
designator CON?
pins: 1 GND_0, 2 MIPI_D3N, 3 MIPI_D3P, 4 GND_1, 5 MIPI_D2N, 6 MIPI_D2P, 7 GND_2, 8 MIPI_CLKN, 9 MIPI_CLKP, 10 GND_3, 11 MIPI_D1N, 12 MIPI_D1P, 13 GND_4, 14 MIPI_D0N, 15 MIPI_D0P, 16 GND_5, 17 NC1, 18 CAM_MCLK, 19 VCC_IO (power), 20 NC2, 21 MIPI_PDN, 22 NC3, 23 MIPI_SCL, 24 MIPI_SDA, 25 NC4, 26 MIPI_RST, 27 DVP_PWR, 28 VCC_SYS_0 (power), 29 VCC_SYS_1 (power), 30 VCC_SYS_2 (power), 31 GND_7, 32 GND_6

## LCD_Hitachi_TX05D99VM1AAA_9
designator CON?
pins: 1 GND_0, 2 MIPI_D3N, 3 MIPI_D3P, 4 GND_1, 5 MIPI_D2N, 6 MIPI_D2P, 7 GND_2, 8 MIPI_CLKN, 9 MIPI_CLKP, 10 GND_3, 11 MIPI_D1N, 12 MIPI_D1P, 13 GND_4, 14 MIPI_D0N, 15 MIPI_D0P, 16 GND_5, 17 NC1, 18 CAM_MCLK, 19 VCC_IO (power), 20 NC2, 21 MIPI_PDN, 22 NC3, 23 MIPI_SCL, 24 MIPI_SDA, 25 NC4, 26 MIPI_RST, 27 GND6, 28 VCC_SYS_0 (power), 29 VCC_SYS_1 (power), 30 VCC_SYS_2 (power), 31 GND_7, 32 GND_8

## LCD_Hitachi_TX05D99VM1AAA_10
designator CON?
pins: 1 GND_0, 2 MIPI_D3N, 3 MIPI_D3P, 4 GND_1, 5 MIPI_D2N, 6 MIPI_D2P, 7 GND_2, 8 MIPI_CLKN, 9 MIPI_CLKP, 10 GND_3, 11 MIPI_D1N, 12 MIPI_D1P, 13 GND_4, 14 MIPI_D0N, 15 MIPI_D0P, 16 GND_5, 17 LCDC_BL, 18 MIPI_MCLK, 19 VCC_IO (power), 20 LCD_EN, 21 LCD_CS/MIPI_PDN, 22 BL_EN, 23 TP_SCL, 24 TP_SDA, 25 TP_INT, 26 TP_RST/MIPI_RST, 27 GND_7, 28 VCC_VSYS_0 (power), 29 VCC_VSYS_1 (power), 30 VCC_VSYS_2 (power), 31 GND_8, 32 GND_9

## LD089WU1_0
designator U?
pins: 1 VDD1, 2 VDD2, 3 VDD3, 4 NC1, 5 GND1, 6 BIST, 7 NC2, 8 NC3, 9 GND2, 10 NC4, 11 NC5, 12 GND3, 13 NC6, 14 NC7, 15 GND4, 16 NC8, 17 NC9, 18 GND5, 19 MIPI_2N, 20 MIPI_2P, 21 GND6, 22 MIPI_1N, 23 MIPI_1P, 24 GND7, 25 MIPI_CLKN, 26 MIPI_CLKP, 27 GND8, 28 MIPI_0N, 29 MIPI_0P, 30 GND, 31 MIPI_3N, 32 MIPI_3P, 33 GND9, 34 FB1, 35 FB2, 36 FB3, 37 FB4, 38 FB5, 39 PWM_IN, 40 PWM_OUT, 41 CABC_EN, 42 NC10, 43 VLED1, 44 VLED2, 45 VLED3, 46 GND10, 47 GND11

## LDO_PT5108
designator U?
pins: 1 IN, 2 GND, 3 EN, 4 BP, 5 OUT

## LDO_PT5108_0
designator U?
pins: 1 IN, 2 GND, 3 OUT

## LDO_PT5108_1
designator U?
pins: 1 OUT, 2 GND, 3 IN

## LDR6015_1
designator U?
pins: 1 GND, 2 RESV, 3 RESV, 4 VSR2, 5 RVOL, 6 GLED, 7 BLED, 8 DET, 9 RLED, 10 SVOL, 11 VSR1, 12 CC2A, 13 CC1A, 14 VSR0, 15 PDLDO, 16 VDD

## LED
designator LED?
pins: 1 ANODE, 2 CATHODE

## LED_0
designator D?
pins: 1 ANODE, 2 CATHODE

## LM4990_0
designator U?
pins: 1 VDD, 2 PA7, 3 PA6, 4 PA5, 5 PA3, 6 PA4, 7 PA0, 8 GND

## LM4990_1
designator U?
pins: 1 OSCI, 2 OSCO, 3 ~{INT}, 4 VSS, 5 SDA, 6 SCL, 7 CLKOUT, 8 VDD

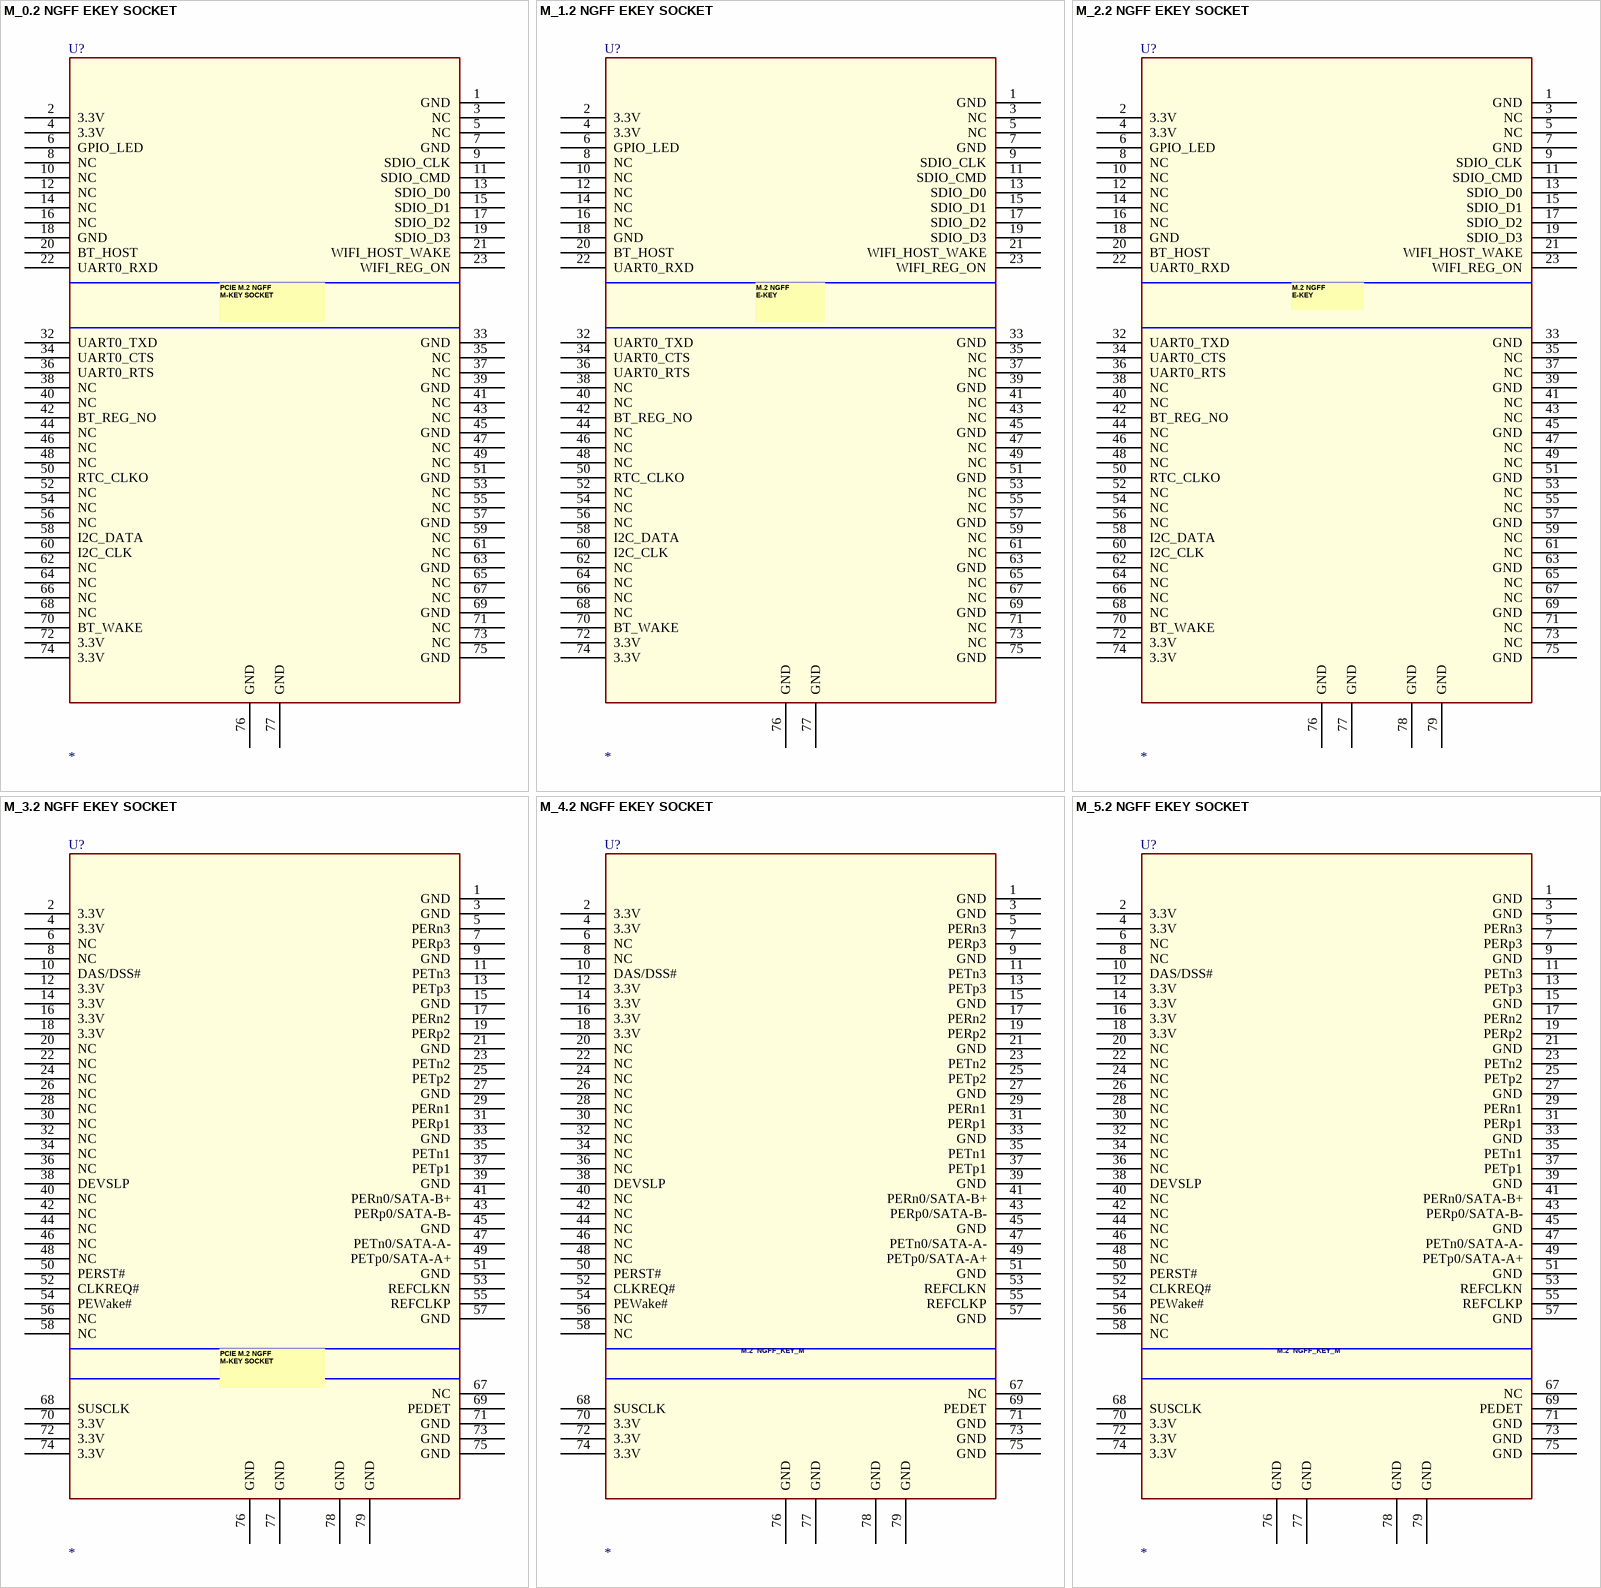
[diagram p118: symbols M_0.2 NGFF EKEY SOCKET to M_5.2 NGFF EKEY SOCKET]

## M_0.2 NGFF EKEY SOCKET
designator U?
pins: 1 GND, 2 3.3V, 3 NC, 4 3.3V, 5 NC, 6 GPIO_LED, 7 GND, 8 NC, 9 SDIO_CLK, 10 NC, 11 SDIO_CMD, 12 NC, 13 SDIO_D0, 14 NC, 15 SDIO_D1, 16 NC, 17 SDIO_D2, 18 GND, 19 SDIO_D3, 20 BT_HOST, 21 WIFI_HOST_WAKE, 22 UART0_RXD, 23 WIFI_REG_ON, 32 UART0_TXD, 33 GND, 34 UART0_CTS, 35 NC, 36 UART0_RTS, 37 NC, 38 NC, 39 GND, 40 NC, 41 NC, 42 BT_REG_NO, 43 NC, 44 NC, 45 GND, 46 NC, 47 NC, 48 NC, 49 NC, 50 RTC_CLKO, 51 GND, 52 NC, 53 NC, 54 NC, 55 NC, 56 NC, 57 GND, 58 I2C_DATA, 59 NC, 60 I2C_CLK, 61 NC, 62 NC, 63 GND, 64 NC, 65 NC, 66 NC, 67 NC, 68 NC, 69 GND, 70 BT_WAKE, 71 NC, 72 3.3V, 73 NC, 74 3.3V, 75 GND, 76 GND, 77 GND
text: PCIE M.2 NGFF / M-KEY SOCKET

## M_1.2 NGFF EKEY SOCKET
designator U?
pins: 1 GND, 2 3.3V, 3 NC, 4 3.3V, 5 NC, 6 GPIO_LED, 7 GND, 8 NC, 9 SDIO_CLK, 10 NC, 11 SDIO_CMD, 12 NC, 13 SDIO_D0, 14 NC, 15 SDIO_D1, 16 NC, 17 SDIO_D2, 18 GND, 19 SDIO_D3, 20 BT_HOST, 21 WIFI_HOST_WAKE, 22 UART0_RXD, 23 WIFI_REG_ON, 32 UART0_TXD, 33 GND, 34 UART0_CTS, 35 NC, 36 UART0_RTS, 37 NC, 38 NC, 39 GND, 40 NC, 41 NC, 42 BT_REG_NO, 43 NC, 44 NC, 45 GND, 46 NC, 47 NC, 48 NC, 49 NC, 50 RTC_CLKO, 51 GND, 52 NC, 53 NC, 54 NC, 55 NC, 56 NC, 57 GND, 58 I2C_DATA, 59 NC, 60 I2C_CLK, 61 NC, 62 NC, 63 GND, 64 NC, 65 NC, 66 NC, 67 NC, 68 NC, 69 GND, 70 BT_WAKE, 71 NC, 72 3.3V, 73 NC, 74 3.3V, 75 GND, 76 GND, 77 GND
text: M.2 NGFF / E-KEY

## M_2.2 NGFF EKEY SOCKET
designator U?
pins: 1 GND, 2 3.3V, 3 NC, 4 3.3V, 5 NC, 6 GPIO_LED, 7 GND, 8 NC, 9 SDIO_CLK, 10 NC, 11 SDIO_CMD, 12 NC, 13 SDIO_D0, 14 NC, 15 SDIO_D1, 16 NC, 17 SDIO_D2, 18 GND, 19 SDIO_D3, 20 BT_HOST, 21 WIFI_HOST_WAKE, 22 UART0_RXD, 23 WIFI_REG_ON, 32 UART0_TXD, 33 GND, 34 UART0_CTS, 35 NC, 36 UART0_RTS, 37 NC, 38 NC, 39 GND, 40 NC, 41 NC, 42 BT_REG_NO, 43 NC, 44 NC, 45 GND, 46 NC, 47 NC, 48 NC, 49 NC, 50 RTC_CLKO, 51 GND, 52 NC, 53 NC, 54 NC, 55 NC, 56 NC, 57 GND, 58 I2C_DATA, 59 NC, 60 I2C_CLK, 61 NC, 62 NC, 63 GND, 64 NC, 65 NC, 66 NC, 67 NC, 68 NC, 69 GND, 70 BT_WAKE, 71 NC, 72 3.3V, 73 NC, 74 3.3V, 75 GND, 76 GND, 77 GND, 78 GND, 79 GND
text: M.2 NGFF / E-KEY

## M_3.2 NGFF EKEY SOCKET
designator U?
pins: 1 GND, 2 3.3V, 3 GND, 4 3.3V, 5 PERn3, 6 NC, 7 PERp3, 8 NC, 9 GND, 10 DAS/DSS#, 11 PETn3, 12 3.3V, 13 PETp3, 14 3.3V, 15 GND, 16 3.3V, 17 PERn2, 18 3.3V, 19 PERp2, 20 NC, 21 GND, 22 NC, 23 PETn2, 24 NC, 25 PETp2, 26 NC, 27 GND, 28 NC, 29 PERn1, 30 NC, 31 PERp1, 32 NC, 33 GND, 34 NC, 35 PETn1, 36 NC, 37 PETp1, 38 DEVSLP, 39 GND, 40 NC, 41 PERn0/SATA-B+, 42 NC, 43 PERp0/SATA-B-, 44 NC, 45 GND, 46 NC, 47 PETn0/SATA-A-, 48 NC, 49 PETp0/SATA-A+, 50 PERST#, 51 GND, 52 CLKREQ#, 53 REFCLKN, 54 PEWake#, 55 REFCLKP, 56 NC, 57 GND, 58 NC, 67 NC, 68 SUSCLK, 69 PEDET, 70 3.3V, 71 GND, 72 3.3V, 73 GND, 74 3.3V, 75 GND, 76 GND, 77 GND, 78 GND, 79 GND
text: PCIE M.2 NGFF / M-KEY SOCKET

## M_4.2 NGFF EKEY SOCKET
designator U?
pins: 1 GND, 2 3.3V, 3 GND, 4 3.3V, 5 PERn3, 6 NC, 7 PERp3, 8 NC, 9 GND, 10 DAS/DSS#, 11 PETn3, 12 3.3V, 13 PETp3, 14 3.3V, 15 GND, 16 3.3V, 17 PERn2, 18 3.3V, 19 PERp2, 20 NC, 21 GND, 22 NC, 23 PETn2, 24 NC, 25 PETp2, 26 NC, 27 GND, 28 NC, 29 PERn1, 30 NC, 31 PERp1, 32 NC, 33 GND, 34 NC, 35 PETn1, 36 NC, 37 PETp1, 38 DEVSLP, 39 GND, 40 NC, 41 PERn0/SATA-B+, 42 NC, 43 PERp0/SATA-B-, 44 NC, 45 GND, 46 NC, 47 PETn0/SATA-A-, 48 NC, 49 PETp0/SATA-A+, 50 PERST#, 51 GND, 52 CLKREQ#, 53 REFCLKN, 54 PEWake#, 55 REFCLKP, 56 NC, 57 GND, 58 NC, 67 NC, 68 SUSCLK, 69 PEDET, 70 3.3V, 71 GND, 72 3.3V, 73 GND, 74 3.3V, 75 GND, 76 GND, 77 GND, 78 GND, 79 GND
text: M.2  NGFF_KEY_M

## M_5.2 NGFF EKEY SOCKET
designator U?
pins: 1 GND, 2 3.3V, 3 GND, 4 3.3V, 5 PERn3, 6 NC, 7 PERp3, 8 NC, 9 GND, 10 DAS/DSS#, 11 PETn3, 12 3.3V, 13 PETp3, 14 3.3V, 15 GND, 16 3.3V, 17 PERn2, 18 3.3V, 19 PERp2, 20 NC, 21 GND, 22 NC, 23 PETn2, 24 NC, 25 PETp2, 26 NC, 27 GND, 28 NC, 29 PERn1, 30 NC, 31 PERp1, 32 NC, 33 GND, 34 NC, 35 PETn1, 36 NC, 37 PETp1, 38 DEVSLP, 39 GND, 40 NC, 41 PERn0/SATA-B+, 42 NC, 43 PERp0/SATA-B-, 44 NC, 45 GND, 46 NC, 47 PETn0/SATA-A-, 48 NC, 49 PETp0/SATA-A+, 50 PERST#, 51 GND, 52 CLKREQ#, 53 REFCLKN, 54 PEWake#, 55 REFCLKP, 56 NC, 57 GND, 58 NC, 67 NC, 68 SUSCLK, 69 PEDET, 70 3.3V, 71 GND, 72 3.3V, 73 GND, 74 3.3V, 75 GND, 76 GND, 77 GND, 78 GND, 79 GND
text: M.2  NGFF_KEY_M

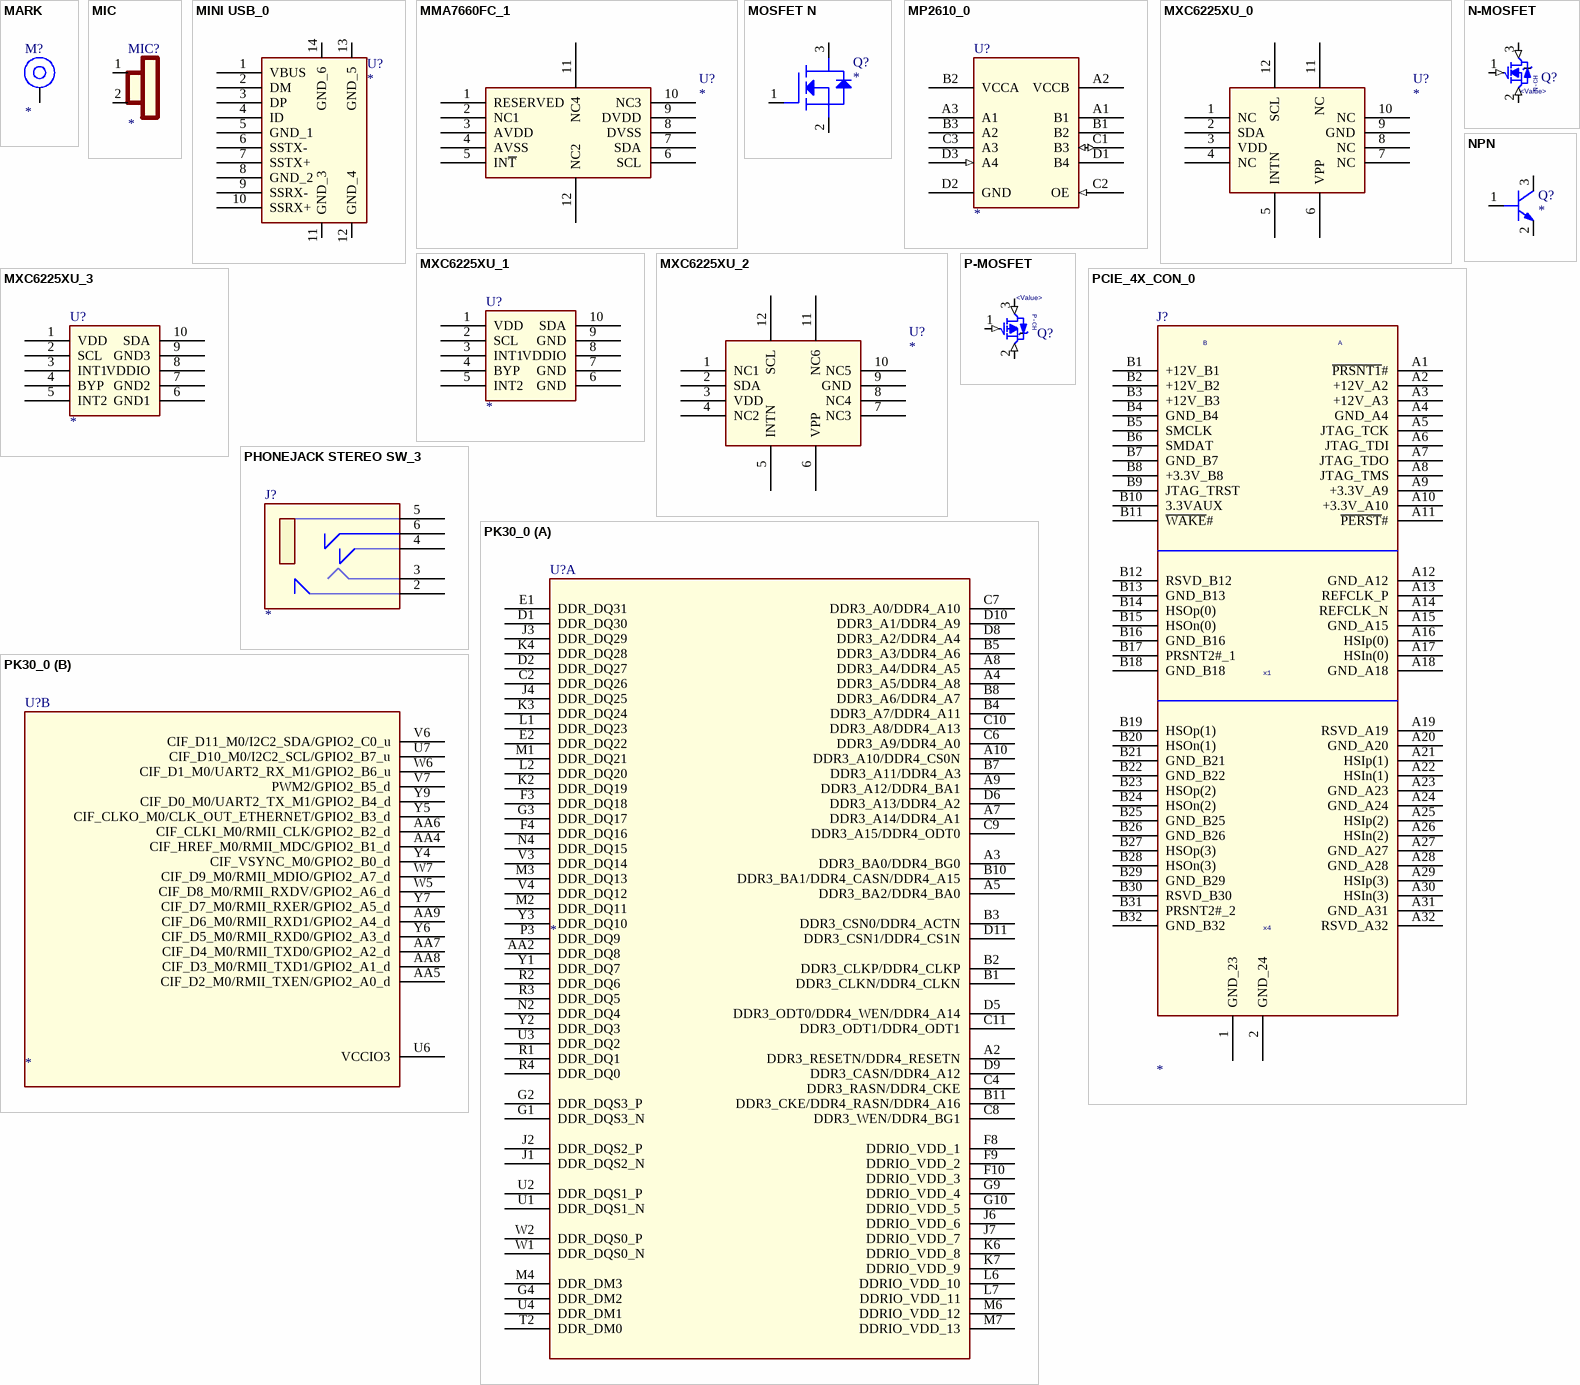
[diagram p119: symbols MARK to PK30_0]

## MARK
designator M?
pins: 1

## MIC
designator MIC?
pins: 1, 2

## MINI USB_0
designator U?
pins: 1 VBUS, 2 DM, 3 DP, 4 ID, 5 GND_1, 6 SSTX-, 7 SSTX+, 8 GND_2 (power), 9 SSRX-, 10 SSRX+, 11 GND_3, 12 GND_4, 13 GND_5, 14 GND_6

## MMA7660FC_1
designator U?
pins: 1 RESERVED, 2 NC1, 3 AVDD, 4 AVSS, 5 IN~{T}, 6 SCL, 7 SDA, 8 DVSS, 9 DVDD, 10 NC3, 11 NC4, 12 NC2

## MOSFET N
designator Q?
footprint SOT23
pins: 1 GATE, 2 SOURCE, 3 DRAIN

## MP2610_0
designator U?
pins: A1 B1 (hiz), A2 VCCB (power), A3 A1 (hiz), B1 B2 (hiz), B2 VCCA (power), B3 A2 (hiz), C1 B3 (io), C2 OE (in), C3 A3 (hiz), D1 B4 (hiz), D2 GND (power), D3 A4 (in)

## MXC6225XU_0
designator U?
pins: 1 NC, 2 SDA, 3 VDD, 4 NC, 5 INTN, 6 VPP, 7 NC, 8 NC, 9 GND, 10 NC, 11 NC, 12 SCL

## MXC6225XU_1
designator U?
pins: 1 VDD, 2 SCL, 3 INT1, 4 BYP, 5 INT2, 6 GND, 7 GND, 8 VDDIO, 9 GND, 10 SDA

## MXC6225XU_2
designator U?
pins: 1 NC1, 2 SDA, 3 VDD, 4 NC2, 5 INTN, 6 VPP, 7 NC3, 8 NC4, 9 GND, 10 NC5, 11 NC6, 12 SCL

## MXC6225XU_3
designator U?
pins: 1 VDD, 2 SCL, 3 INT1, 4 BYP, 5 INT2, 6 GND1, 7 GND2, 8 VDDIO, 9 GND3, 10 SDA

## N-MOSFET
designator Q?, comment <Value>
footprint S0T-23
pins: 1 G (in), 2 S (in), 3 D (in)
text: N-CH

## NPN
designator Q?
pins: 1 BASE, 2 EMITTER, 3 COLLECTOR

## P-MOSFET
designator Q?, comment <Value>
footprint S0T-23
pins: 1 G (in), 2 S (in), 3 D (in)
text: P-CH

## PCIE_4X_CON_0
designator J?
pins: 1 GND_23, 2 GND_24, A1 ~{PRSNT1}#, A2 +12V_A2, A3 +12V_A3, A4 GND_A4, A5 JTAG_TCK, A6 JTAG_TDI, A7 JTAG_TDO, A8 JTAG_TMS, A9 +3.3V_A9, A10 +3.3V_A10, A11 ~{PERST}#, A12 GND_A12, A13 REFCLK_P, A14 REFCLK_N, A15 GND_A15, A16 HSIp(0), A17 HSIn(0), A18 GND_A18, A19 RSVD_A19, A20 GND_A20, A21 HSIp(1), A22 HSIn(1), A23 GND_A23, A24 GND_A24, A25 HSIp(2), A26 HSIn(2), A27 GND_A27, A28 GND_A28, A29 HSIp(3), A30 HSIn(3), A31 GND_A31, A32 RSVD_A32, B1 +12V_B1, B2 +12V_B2, B3 +12V_B3, B4 GND_B4, B5 SMCLK, B6 SMDAT, B7 GND_B7, B8 +3.3V_B8, B9 JTAG_TRST, B10 3.3VAUX, B11 ~{WAKE}#, B12 RSVD_B12, B13 GND_B13, B14 HSOp(0), B15 HSOn(0), B16 GND_B16, B17 PRSNT2#_1, B18 GND_B18, B19 HSOp(1), B20 HSOn(1), B21 GND_B21, B22 GND_B22, B23 HSOp(2), B24 HSOn(2), B25 GND_B25, B26 GND_B26, B27 HSOp(3), B28 HSOn(3), B29 GND_B29, B30 RSVD_B30, B31 PRSNT2#_2, B32 GND_B32
text: B; A; x1; x4

## PHONEJACK STEREO SW_3
designator J?
pins: 2 DH, 3 R, 4 L, 5 D, 6 HP

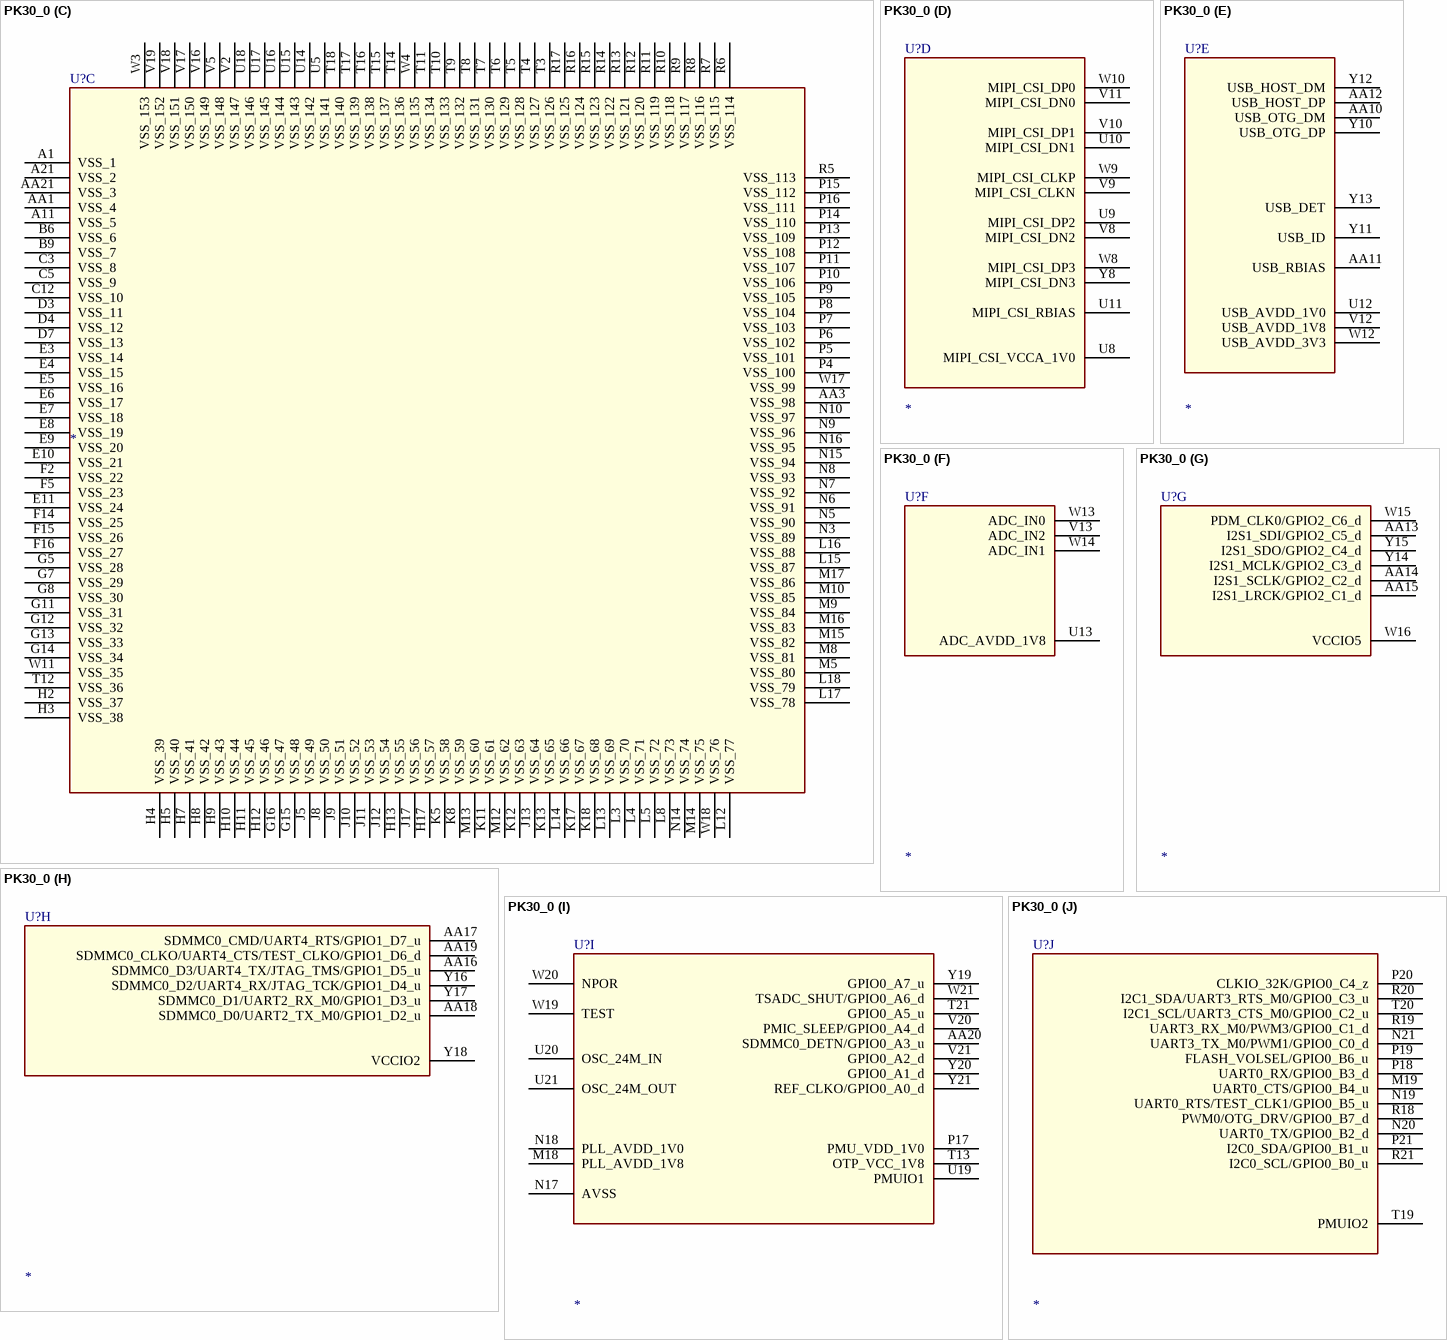
[diagram p120: symbol PK30_0]

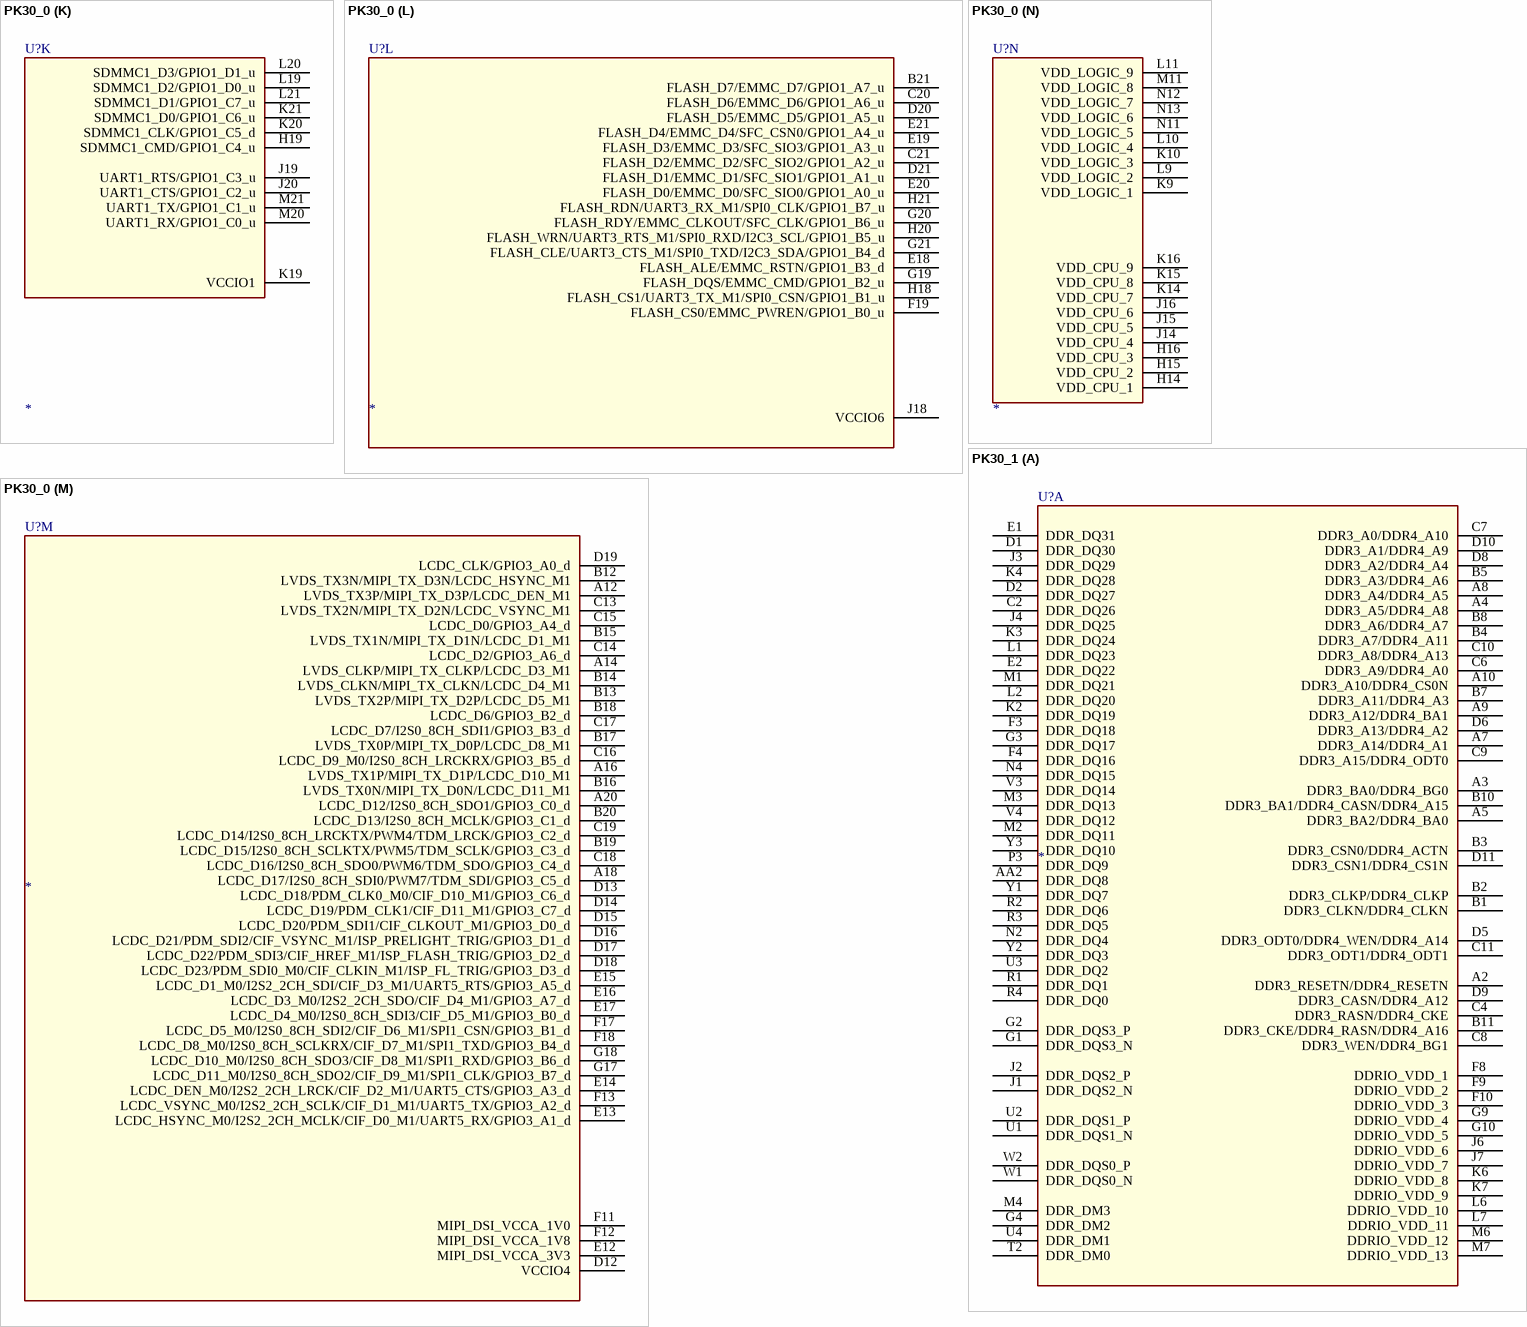
[diagram p121: symbols PK30_0 to PK30_1]

## PK30_0
designator U?
SWAP_INFO: (S1+S2+S3+S4+S5+S6+S7+S8+S9+S10+S11+S12+S13+S14); SPLIT_INST: TRUE
part A pins: A2 DDR3_RESETN/DDR4_RESETN, A3 DDR3_BA0/DDR4_BG0, A4 DDR3_A5/DDR4_A8, A5 DDR3_BA2/DDR4_BA0, A7 DDR3_A14/DDR4_A1, A8 DDR3_A4/DDR4_A5, A9 DDR3_A12/DDR4_BA1, A10 DDR3_A10/DDR4_CS0N, AA2 DDR_DQ8, B1 DDR3_CLKN/DDR4_CLKN, B2 DDR3_CLKP/DDR4_CLKP, B3 DDR3_CSN0/DDR4_ACTN, B4 DDR3_A7/DDR4_A11, B5 DDR3_A3/DDR4_A6, B7 DDR3_A11/DDR4_A3, B8 DDR3_A6/DDR4_A7, B10 DDR3_BA1/DDR4_CASN/DDR4_A15, B11 DDR3_CKE/DDR4_RASN/DDR4_A16, C2 DDR_DQ26, C4 DDR3_RASN/DDR4_CKE, C6 DDR3_A9/DDR4_A0, C7 DDR3_A0/DDR4_A10, C8 DDR3_WEN/DDR4_BG1, C9 DDR3_A15/DDR4_ODT0, C10 DDR3_A8/DDR4_A13, C11 DDR3_ODT1/DDR4_ODT1, D1 DDR_DQ30, D2 DDR_DQ27, D5 DDR3_ODT0/DDR4_WEN/DDR4_A14, D6 DDR3_A13/DDR4_A2, D8 DDR3_A2/DDR4_A4, D9 DDR3_CASN/DDR4_A12, D10 DDR3_A1/DDR4_A9, D11 DDR3_CSN1/DDR4_CS1N, E1 DDR_DQ31, E2 DDR_DQ22, F3 DDR_DQ18, F4 DDR_DQ16, F8 DDRIO_VDD_1, F9 DDRIO_VDD_2, F10 DDRIO_VDD_3, G1 DDR_DQS3_N, G2 DDR_DQS3_P, G3 DDR_DQ17, G4 DDR_DM2, G9 DDRIO_VDD_4, G10 DDRIO_VDD_5, J1 DDR_DQS2_N, J2 DDR_DQS2_P, J3 DDR_DQ29, J4 DDR_DQ25, J6 DDRIO_VDD_6, J7 DDRIO_VDD_7, K2 DDR_DQ19, K3 DDR_DQ24, K4 DDR_DQ28, K6 DDRIO_VDD_8, K7 DDRIO_VDD_9, L1 DDR_DQ23, L2 DDR_DQ20, L6 DDRIO_VDD_10, L7 DDRIO_VDD_11, M1 DDR_DQ21, M2 DDR_DQ11, M3 DDR_DQ13, M4 DDR_DM3, M6 DDRIO_VDD_12, M7 DDRIO_VDD_13, N2 DDR_DQ4, N4 DDR_DQ15, P3 DDR_DQ9, R1 DDR_DQ1, R2 DDR_DQ6, R3 DDR_DQ5, R4 DDR_DQ0, T2 DDR_DM0, U1 DDR_DQS1_N, U2 DDR_DQS1_P, U3 DDR_DQ2, U4 DDR_DM1, V3 DDR_DQ14, V4 DDR_DQ12, W1 DDR_DQS0_N, W2 DDR_DQS0_P, Y1 DDR_DQ7, Y2 DDR_DQ3, Y3 DDR_DQ10
part B pins: AA4 CIF_HREF_M0/RMII_MDC/GPIO2_B1_d, AA5 CIF_D2_M0/RMII_TXEN/GPIO2_A0_d, AA6 CIF_CLKI_M0/RMII_CLK/GPIO2_B2_d, AA7 CIF_D4_M0/RMII_TXD0/GPIO2_A2_d, AA8 CIF_D3_M0/RMII_TXD1/GPIO2_A1_d, AA9 CIF_D6_M0/RMII_RXD1/GPIO2_A4_d, U6 VCCIO3, U7 CIF_D10_M0/I2C2_SCL/GPIO2_B7_u, V6 CIF_D11_M0/I2C2_SDA/GPIO2_C0_u, V7 PWM2/GPIO2_B5_d, W5 CIF_D8_M0/RMII_RXDV/GPIO2_A6_d, W6 CIF_D1_M0/UART2_RX_M1/GPIO2_B6_u, W7 CIF_D9_M0/RMII_MDIO/GPIO2_A7_d, Y4 CIF_VSYNC_M0/GPIO2_B0_d, Y5 CIF_CLKO_M0/CLK_OUT_ETHERNET/GPIO2_B3_d, Y6 CIF_D5_M0/RMII_RXD0/GPIO2_A3_d, Y7 CIF_D7_M0/RMII_RXER/GPIO2_A5_d, Y9 CIF_D0_M0/UART2_TX_M1/GPIO2_B4_d
part C pins: A1 VSS_1, A11 VSS_5, A21 VSS_2, AA1 VSS_4, AA3 VSS_98, AA21 VSS_3, B6 VSS_6, B9 VSS_7, C3 VSS_8, C5 VSS_9, C12 VSS_10, D3 VSS_11, D4 VSS_12, D7 VSS_13, E3 VSS_14, E4 VSS_15, E5 VSS_16, E6 VSS_17, E7 VSS_18, E8 VSS_19, E9 VSS_20, E10 VSS_21, E11 VSS_24, F2 VSS_22, F5 VSS_23, F14 VSS_25, F15 VSS_26, F16 VSS_27, G5 VSS_28, G7 VSS_29, G8 VSS_30, G11 VSS_31, G12 VSS_32, G13 VSS_33, G14 VSS_34, G15 VSS_48, G16 VSS_47, H2 VSS_37, H3 VSS_38, H4 VSS_39, H5 VSS_40, H7 VSS_41, H8 VSS_42, H9 VSS_43, H10 VSS_44, H11 VSS_45, H12 VSS_46, H13 VSS_55, H17 VSS_57, J5 VSS_49, J8 VSS_50, J9 VSS_51, J10 VSS_52, J11 VSS_53, J12 VSS_54, J13 VSS_64, J17 VSS_56, K5 VSS_58, K8 VSS_59, K11 VSS_61, K12 VSS_63, K13 VSS_65, K17 VSS_67, K18 VSS_68, L3 VSS_70, L4 VSS_71, L5 VSS_72, L8 VSS_73, L12 VSS_77, L13 VSS_69, L14 VSS_66, L15 VSS_87, L16 VSS_88, L17 VSS_78, L18 VSS_79, M5 VSS_80, M8 VSS_81, M9 VSS_84, M10 VSS_85, M12 VSS_62, M13 VSS_60, M14 VSS_75, M15 VSS_82, M16 VSS_83, M17 VSS_86, N3 VSS_89, N5 VSS_90, N6 VSS_91, N7 VSS_92, N8 VSS_93, N9 VSS_96, N10 VSS_97, N14 VSS_74, N15 VSS_94, N16 VSS_95, P4 VSS_100, P5 VSS_101, P6 VSS_102, P7 VSS_103, P8 VSS_104, P9 VSS_105, P10 VSS_106, P11 VSS_107, P12 VSS_108, P13 VSS_109, P14 VSS_110, P15 VSS_112, P16 VSS_111, R5 VSS_113, R6 VSS_114, R7 VSS_115, R8 VSS_116, R9 VSS_117, R10 VSS_118, R11 VSS_119, R12 VSS_120, R13 VSS_121, R14 VSS_122, R15 VSS_123, R16 VSS_124, R17 VSS_125, T3 VSS_126, T4 VSS_127, T5 VSS_128, T6 VSS_129, T7 VSS_130, T8 VSS_131, T9 VSS_132, T10 VSS_133, T11 VSS_134, T12 VSS_36, T14 VSS_136, T15 VSS_137, T16 VSS_138, T17 VSS_139, T18 VSS_140, U5 VSS_141, U14 VSS_142, U15 VSS_143, U16 VSS_144, U17 VSS_145, U18 VSS_146, V2 VSS_147, V5 VSS_148, V16 VSS_149, V17 VSS_150, V18 VSS_151, V19 VSS_152, W3 VSS_153, W4 VSS_135, W11 VSS_35, W17 VSS_99, W18 VSS_76
part D pins: U8 MIPI_CSI_VCCA_1V0, U9 MIPI_CSI_DP2, U10 MIPI_CSI_DN1, U11 MIPI_CSI_RBIAS, V8 MIPI_CSI_DN2, V9 MIPI_CSI_CLKN, V10 MIPI_CSI_DP1, V11 MIPI_CSI_DN0, W8 MIPI_CSI_DP3, W9 MIPI_CSI_CLKP, W10 MIPI_CSI_DP0, Y8 MIPI_CSI_DN3
part E pins: AA10 USB_OTG_DM, AA11 USB_RBIAS, AA12 USB_HOST_DP, U12 USB_AVDD_1V0, V12 USB_AVDD_1V8, W12 USB_AVDD_3V3, Y10 USB_OTG_DP, Y11 USB_ID, Y12 USB_HOST_DM, Y13 USB_DET
part F pins: U13 ADC_AVDD_1V8, V13 ADC_IN2, W13 ADC_IN0, W14 ADC_IN1
part G pins: AA13 I2S1_SDI/GPIO2_C5_d, AA14 I2S1_SCLK/GPIO2_C2_d, AA15 I2S1_LRCK/GPIO2_C1_d, W15 PDM_CLK0/GPIO2_C6_d, W16 VCCIO5, Y14 I2S1_MCLK/GPIO2_C3_d, Y15 I2S1_SDO/GPIO2_C4_d
part H pins: AA16 SDMMC0_D3/UART4_TX/JTAG_TMS/GPIO1_D5_u, AA17 SDMMC0_CMD/UART4_RTS/GPIO1_D7_u, AA18 SDMMC0_D0/UART2_TX_M0/GPIO1_D2_u, AA19 SDMMC0_CLKO/UART4_CTS/TEST_CLKO/GPIO1_D6_d, Y16 SDMMC0_D2/UART4_RX/JTAG_TCK/GPIO1_D4_u, Y17 SDMMC0_D1/UART2_RX_M0/GPIO1_D3_u, Y18 VCCIO2
part I pins: AA20 SDMMC0_DETN/GPIO0_A3_u, M18 PLL_AVDD_1V8, N17 AVSS, N18 PLL_AVDD_1V0, P17 PMU_VDD_1V0, T13 OTP_VCC_1V8, T21 GPIO0_A5_u, U19 PMUIO1, U20 OSC_24M_IN, U21 OSC_24M_OUT, V20 PMIC_SLEEP/GPIO0_A4_d, V21 GPIO0_A2_d, W19 TEST, W20 NPOR, W21 TSADC_SHUT/GPIO0_A6_d, Y19 GPIO0_A7_u, Y20 GPIO0_A1_d, Y21 REF_CLKO/GPIO0_A0_d
part J pins: M19 UART0_CTS/GPIO0_B4_u, N19 UART0_RTS/TEST_CLK1/GPIO0_B5_u, N20 UART0_TX/GPIO0_B2_d, N21 UART3_TX_M0/PWM1/GPIO0_C0_d, P18 UART0_RX/GPIO0_B3_d, P19 FLASH_VOLSEL/GPIO0_B6_u, P20 CLKIO_32K/GPIO0_C4_z, P21 I2C0_SDA/GPIO0_B1_u, R18 PWM0/OTG_DRV/GPIO0_B7_d, R19 UART3_RX_M0/PWM3/GPIO0_C1_d, R20 I2C1_SDA/UART3_RTS_M0/GPIO0_C3_u, R21 I2C0_SCL/GPIO0_B0_u, T19 PMUIO2, T20 I2C1_SCL/UART3_CTS_M0/GPIO0_C2_u
part K pins: H19 SDMMC1_CMD/GPIO1_C4_u, J19 UART1_RTS/GPIO1_C3_u, J20 UART1_CTS/GPIO1_C2_u, K19 VCCIO1, K20 SDMMC1_CLK/GPIO1_C5_d, K21 SDMMC1_D0/GPIO1_C6_u, L19 SDMMC1_D2/GPIO1_D0_u, L20 SDMMC1_D3/GPIO1_D1_u, L21 SDMMC1_D1/GPIO1_C7_u, M20 UART1_RX/GPIO1_C0_u, M21 UART1_TX/GPIO1_C1_u
part L pins: B21 FLASH_D7/EMMC_D7/GPIO1_A7_u, C20 FLASH_D6/EMMC_D6/GPIO1_A6_u, C21 FLASH_D2/EMMC_D2/SFC_SIO2/GPIO1_A2_u, D20 FLASH_D5/EMMC_D5/GPIO1_A5_u, D21 FLASH_D1/EMMC_D1/SFC_SIO1/GPIO1_A1_u, E18 FLASH_ALE/EMMC_RSTN/GPIO1_B3_d, E19 FLASH_D3/EMMC_D3/SFC_SIO3/GPIO1_A3_u, E20 FLASH_D0/EMMC_D0/SFC_SIO0/GPIO1_A0_u, E21 FLASH_D4/EMMC_D4/SFC_CSN0/GPIO1_A4_u, F19 FLASH_CS0/EMMC_PWREN/GPIO1_B0_u, G19 FLASH_DQS/EMMC_CMD/GPIO1_B2_u, G20 FLASH_RDY/EMMC_CLKOUT/SFC_CLK/GPIO1_B6_u, G21 FLASH_CLE/UART3_CTS_M1/SPI0_TXD/I2C3_SDA/GPIO1_B4_d, H18 FLASH_CS1/UART3_TX_M1/SPI0_CSN/GPIO1_B1_u, H20 FLASH_WRN/UART3_RTS_M1/SPI0_RXD/I2C3_SCL/GPIO1_B5_u, H21 FLASH_RDN/UART3_RX_M1/SPI0_CLK/GPIO1_B7_u, J18 VCCIO6
part M pins: A12 LVDS_TX3P/MIPI_TX_D3P/LCDC_DEN_M1, A14 LVDS_CLKP/MIPI_TX_CLKP/LCDC_D3_M1, A16 LVDS_TX1P/MIPI_TX_D1P/LCDC_D10_M1, A18 LCDC_D17/I2S0_8CH_SDI0/PWM7/TDM_SDI/GPIO3_C5_d, A20 LCDC_D12/I2S0_8CH_SDO1/GPIO3_C0_d, B12 LVDS_TX3N/MIPI_TX_D3N/LCDC_HSYNC_M1, B13 LVDS_TX2P/MIPI_TX_D2P/LCDC_D5_M1, B14 LVDS_CLKN/MIPI_TX_CLKN/LCDC_D4_M1, B15 LVDS_TX1N/MIPI_TX_D1N/LCDC_D1_M1, B16 LVDS_TX0N/MIPI_TX_D0N/LCDC_D11_M1, B17 LVDS_TX0P/MIPI_TX_D0P/LCDC_D8_M1, B18 LCDC_D6/GPIO3_B2_d, B19 LCDC_D15/I2S0_8CH_SCLKTX/PWM5/TDM_SCLK/GPIO3_C3_d, B20 LCDC_D13/I2S0_8CH_MCLK/GPIO3_C1_d, C13 LVDS_TX2N/MIPI_TX_D2N/LCDC_VSYNC_M1, C14 LCDC_D2/GPIO3_A6_d, C15 LCDC_D0/GPIO3_A4_d, C16 LCDC_D9_M0/I2S0_8CH_LRCKRX/GPIO3_B5_d, C17 LCDC_D7/I2S0_8CH_SDI1/GPIO3_B3_d, C18 LCDC_D16/I2S0_8CH_SDO0/PWM6/TDM_SDO/GPIO3_C4_d, C19 LCDC_D14/I2S0_8CH_LRCKTX/PWM4/TDM_LRCK/GPIO3_C2_d, D12 VCCIO4, D13 LCDC_D18/PDM_CLK0_M0/CIF_D10_M1/GPIO3_C6_d, D14 LCDC_D19/PDM_CLK1/CIF_D11_M1/GPIO3_C7_d, D15 LCDC_D20/PDM_SDI1/CIF_CLKOUT_M1/GPIO3_D0_d, D16 LCDC_D21/PDM_SDI2/CIF_VSYNC_M1/ISP_PRELIGHT_TRIG/GPIO3_D1_d, D17 LCDC_D22/PDM_SDI3/CIF_HREF_M1/ISP_FLASH_TRIG/GPIO3_D2_d, D18 LCDC_D23/PDM_SDI0_M0/CIF_CLKIN_M1/ISP_FL_TRIG/GPIO3_D3_d, D19 LCDC_CLK/GPIO3_A0_d, E12 MIPI_DSI_VCCA_3V3, E13 LCDC_HSYNC_M0/I2S2_2CH_MCLK/CIF_D0_M1/UART5_RX/GPIO3_A1_d, E14 LCDC_DEN_M0/I2S2_2CH_LRCK/CIF_D2_M1/UART5_CTS/GPIO3_A3_d, E15 LCDC_D1_M0/I2S2_2CH_SDI/CIF_D3_M1/UART5_RTS/GPIO3_A5_d, E16 LCDC_D3_M0/I2S2_2CH_SDO/CIF_D4_M1/GPIO3_A7_d, E17 LCDC_D4_M0/I2S0_8CH_SDI3/CIF_D5_M1/GPIO3_B0_d, F11 MIPI_DSI_VCCA_1V0, F12 MIPI_DSI_VCCA_1V8, F13 LCDC_VSYNC_M0/I2S2_2CH_SCLK/CIF_D1_M1/UART5_TX/GPIO3_A2_d, F17 LCDC_D5_M0/I2S0_8CH_SDI2/CIF_D6_M1/SPI1_CSN/GPIO3_B1_d, F18 LCDC_D8_M0/I2S0_8CH_SCLKRX/CIF_D7_M1/SPI1_TXD/GPIO3_B4_d, G17 LCDC_D11_M0/I2S0_8CH_SDO2/CIF_D9_M1/SPI1_CLK/GPIO3_B7_d, G18 LCDC_D10_M0/I2S0_8CH_SDO3/CIF_D8_M1/SPI1_RXD/GPIO3_B6_d
part N pins: H14 VDD_CPU_1, H15 VDD_CPU_2, H16 VDD_CPU_3, J14 VDD_CPU_4, J15 VDD_CPU_5, J16 VDD_CPU_6, K9 VDD_LOGIC_1, K10 VDD_LOGIC_3, K14 VDD_CPU_7, K15 VDD_CPU_8, K16 VDD_CPU_9, L9 VDD_LOGIC_2, L10 VDD_LOGIC_4, L11 VDD_LOGIC_9, M11 VDD_LOGIC_8, N11 VDD_LOGIC_5, N12 VDD_LOGIC_7, N13 VDD_LOGIC_6

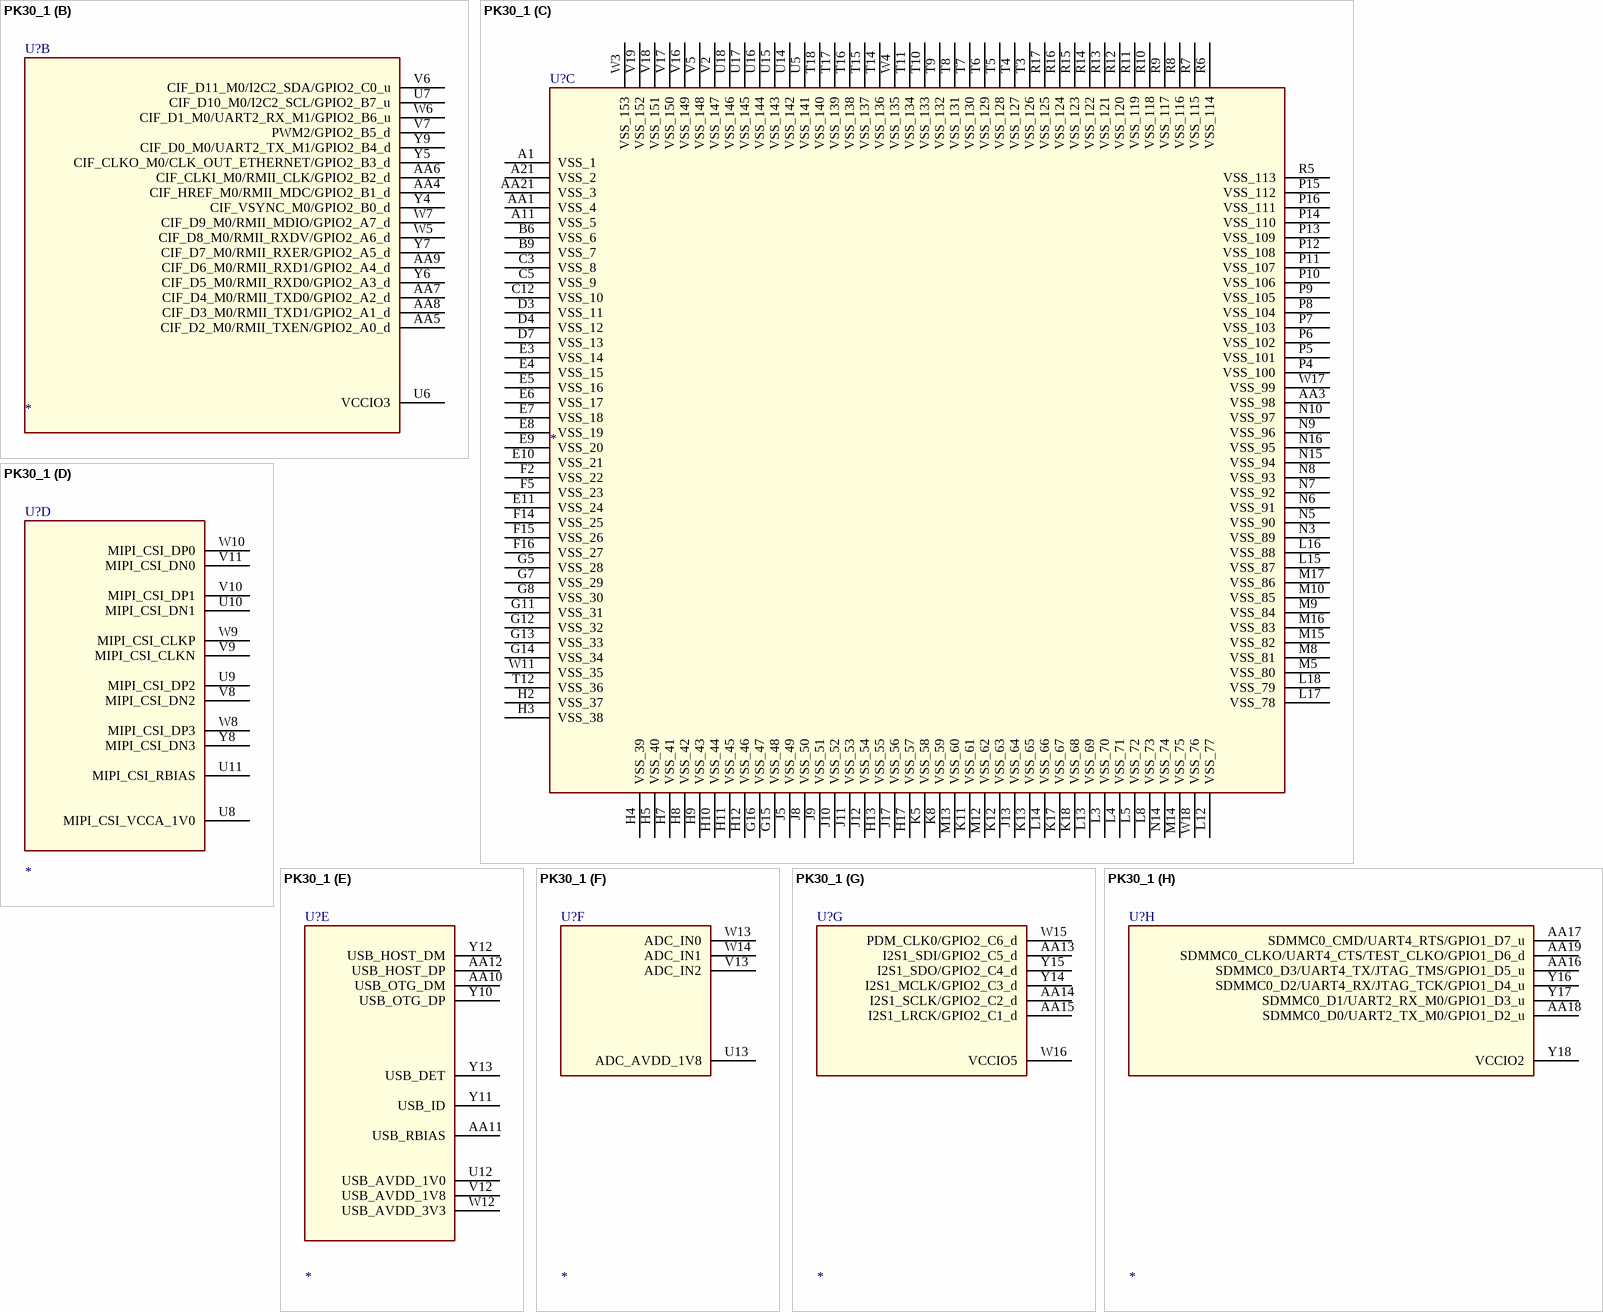
[diagram p122: symbol PK30_1]

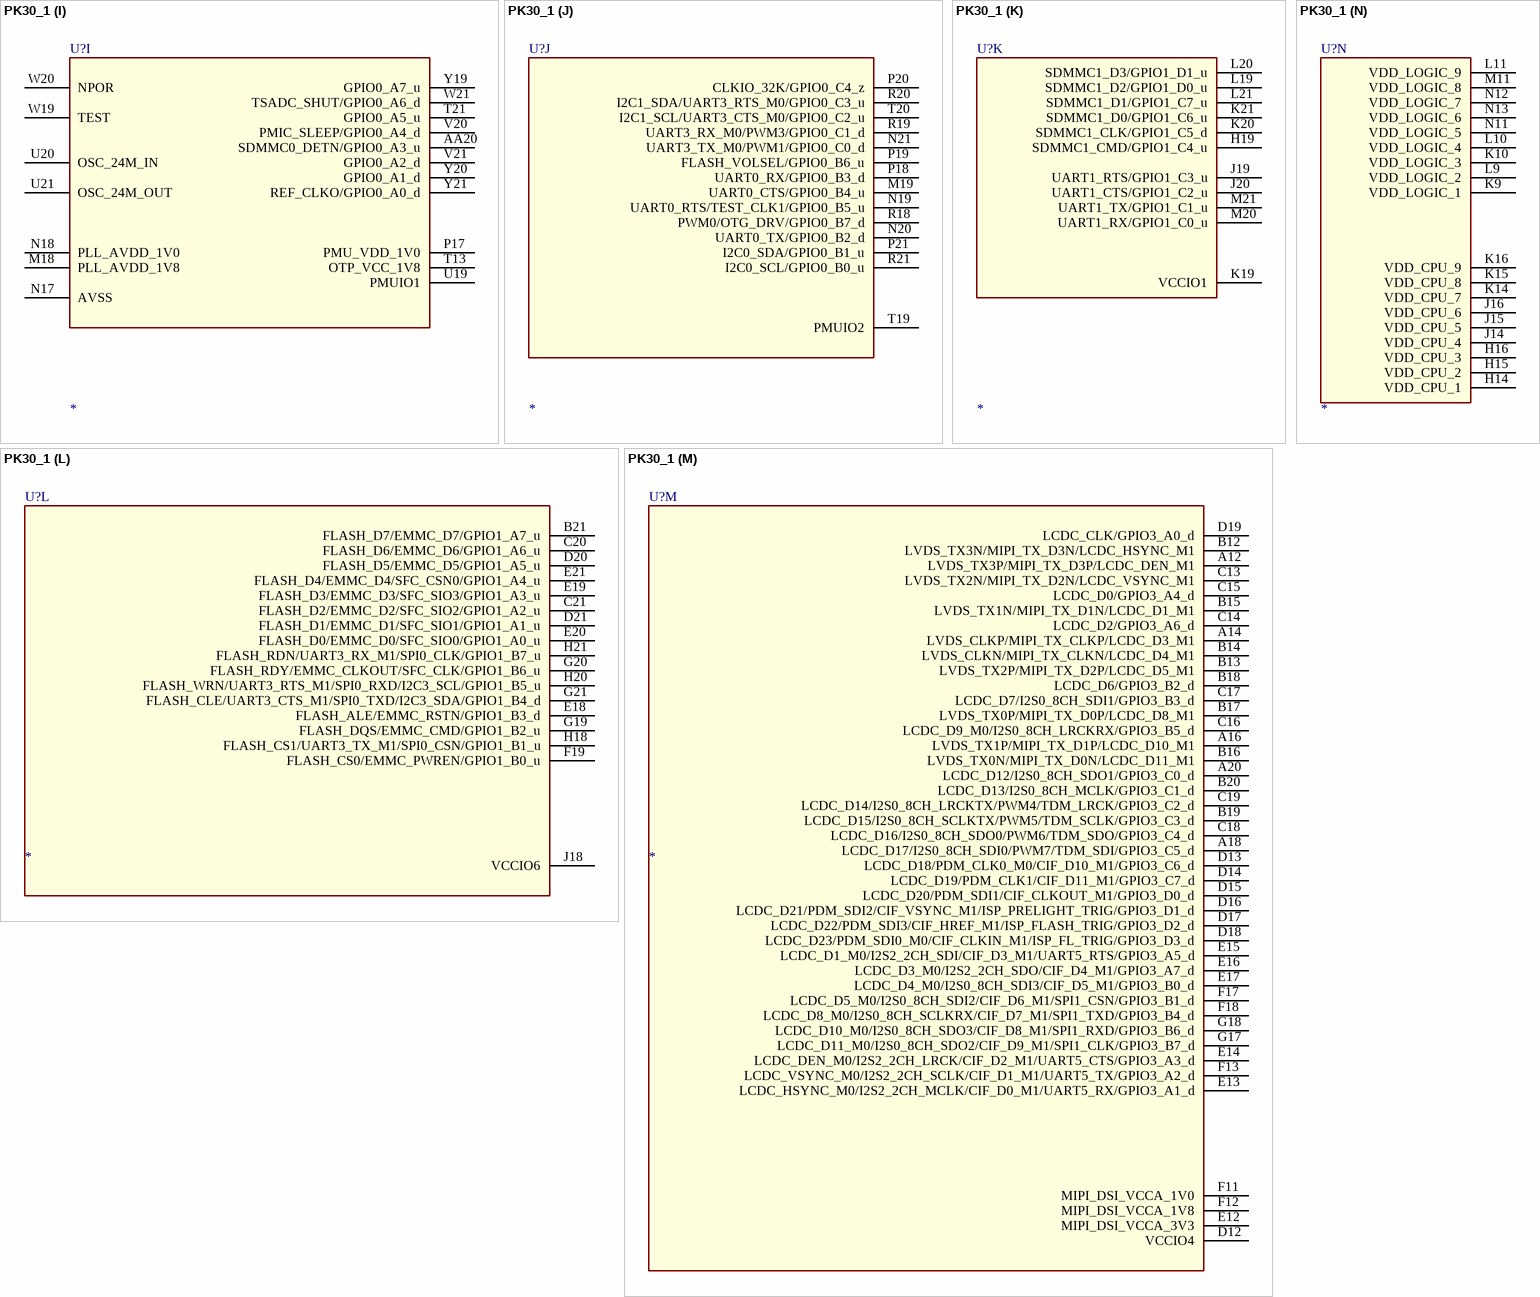
[diagram p123: symbol PK30_1]

## PK30_1
designator U?
SWAP_INFO: (S1+S2+S3+S4+S5+S6+S7+S8+S9+S10+S11+S12+S13+S14); SPLIT_INST: TRUE
part A pins: A2 DDR3_RESETN/DDR4_RESETN, A3 DDR3_BA0/DDR4_BG0, A4 DDR3_A5/DDR4_A8, A5 DDR3_BA2/DDR4_BA0, A7 DDR3_A14/DDR4_A1, A8 DDR3_A4/DDR4_A5, A9 DDR3_A12/DDR4_BA1, A10 DDR3_A10/DDR4_CS0N, AA2 DDR_DQ8, B1 DDR3_CLKN/DDR4_CLKN, B2 DDR3_CLKP/DDR4_CLKP, B3 DDR3_CSN0/DDR4_ACTN, B4 DDR3_A7/DDR4_A11, B5 DDR3_A3/DDR4_A6, B7 DDR3_A11/DDR4_A3, B8 DDR3_A6/DDR4_A7, B10 DDR3_BA1/DDR4_CASN/DDR4_A15, B11 DDR3_CKE/DDR4_RASN/DDR4_A16, C2 DDR_DQ26, C4 DDR3_RASN/DDR4_CKE, C6 DDR3_A9/DDR4_A0, C7 DDR3_A0/DDR4_A10, C8 DDR3_WEN/DDR4_BG1, C9 DDR3_A15/DDR4_ODT0, C10 DDR3_A8/DDR4_A13, C11 DDR3_ODT1/DDR4_ODT1, D1 DDR_DQ30, D2 DDR_DQ27, D5 DDR3_ODT0/DDR4_WEN/DDR4_A14, D6 DDR3_A13/DDR4_A2, D8 DDR3_A2/DDR4_A4, D9 DDR3_CASN/DDR4_A12, D10 DDR3_A1/DDR4_A9, D11 DDR3_CSN1/DDR4_CS1N, E1 DDR_DQ31, E2 DDR_DQ22, F3 DDR_DQ18, F4 DDR_DQ16, F8 DDRIO_VDD_1, F9 DDRIO_VDD_2, F10 DDRIO_VDD_3, G1 DDR_DQS3_N, G2 DDR_DQS3_P, G3 DDR_DQ17, G4 DDR_DM2, G9 DDRIO_VDD_4, G10 DDRIO_VDD_5, J1 DDR_DQS2_N, J2 DDR_DQS2_P, J3 DDR_DQ29, J4 DDR_DQ25, J6 DDRIO_VDD_6, J7 DDRIO_VDD_7, K2 DDR_DQ19, K3 DDR_DQ24, K4 DDR_DQ28, K6 DDRIO_VDD_8, K7 DDRIO_VDD_9, L1 DDR_DQ23, L2 DDR_DQ20, L6 DDRIO_VDD_10, L7 DDRIO_VDD_11, M1 DDR_DQ21, M2 DDR_DQ11, M3 DDR_DQ13, M4 DDR_DM3, M6 DDRIO_VDD_12, M7 DDRIO_VDD_13, N2 DDR_DQ4, N4 DDR_DQ15, P3 DDR_DQ9, R1 DDR_DQ1, R2 DDR_DQ6, R3 DDR_DQ5, R4 DDR_DQ0, T2 DDR_DM0, U1 DDR_DQS1_N, U2 DDR_DQS1_P, U3 DDR_DQ2, U4 DDR_DM1, V3 DDR_DQ14, V4 DDR_DQ12, W1 DDR_DQS0_N, W2 DDR_DQS0_P, Y1 DDR_DQ7, Y2 DDR_DQ3, Y3 DDR_DQ10
part B pins: AA4 CIF_HREF_M0/RMII_MDC/GPIO2_B1_d, AA5 CIF_D2_M0/RMII_TXEN/GPIO2_A0_d, AA6 CIF_CLKI_M0/RMII_CLK/GPIO2_B2_d, AA7 CIF_D4_M0/RMII_TXD0/GPIO2_A2_d, AA8 CIF_D3_M0/RMII_TXD1/GPIO2_A1_d, AA9 CIF_D6_M0/RMII_RXD1/GPIO2_A4_d, U6 VCCIO3, U7 CIF_D10_M0/I2C2_SCL/GPIO2_B7_u, V6 CIF_D11_M0/I2C2_SDA/GPIO2_C0_u, V7 PWM2/GPIO2_B5_d, W5 CIF_D8_M0/RMII_RXDV/GPIO2_A6_d, W6 CIF_D1_M0/UART2_RX_M1/GPIO2_B6_u, W7 CIF_D9_M0/RMII_MDIO/GPIO2_A7_d, Y4 CIF_VSYNC_M0/GPIO2_B0_d, Y5 CIF_CLKO_M0/CLK_OUT_ETHERNET/GPIO2_B3_d, Y6 CIF_D5_M0/RMII_RXD0/GPIO2_A3_d, Y7 CIF_D7_M0/RMII_RXER/GPIO2_A5_d, Y9 CIF_D0_M0/UART2_TX_M1/GPIO2_B4_d
part C pins: A1 VSS_1, A11 VSS_5, A21 VSS_2, AA1 VSS_4, AA3 VSS_98, AA21 VSS_3, B6 VSS_6, B9 VSS_7, C3 VSS_8, C5 VSS_9, C12 VSS_10, D3 VSS_11, D4 VSS_12, D7 VSS_13, E3 VSS_14, E4 VSS_15, E5 VSS_16, E6 VSS_17, E7 VSS_18, E8 VSS_19, E9 VSS_20, E10 VSS_21, E11 VSS_24, F2 VSS_22, F5 VSS_23, F14 VSS_25, F15 VSS_26, F16 VSS_27, G5 VSS_28, G7 VSS_29, G8 VSS_30, G11 VSS_31, G12 VSS_32, G13 VSS_33, G14 VSS_34, G15 VSS_48, G16 VSS_47, H2 VSS_37, H3 VSS_38, H4 VSS_39, H5 VSS_40, H7 VSS_41, H8 VSS_42, H9 VSS_43, H10 VSS_44, H11 VSS_45, H12 VSS_46, H13 VSS_55, H17 VSS_57, J5 VSS_49, J8 VSS_50, J9 VSS_51, J10 VSS_52, J11 VSS_53, J12 VSS_54, J13 VSS_64, J17 VSS_56, K5 VSS_58, K8 VSS_59, K11 VSS_61, K12 VSS_63, K13 VSS_65, K17 VSS_67, K18 VSS_68, L3 VSS_70, L4 VSS_71, L5 VSS_72, L8 VSS_73, L12 VSS_77, L13 VSS_69, L14 VSS_66, L15 VSS_87, L16 VSS_88, L17 VSS_78, L18 VSS_79, M5 VSS_80, M8 VSS_81, M9 VSS_84, M10 VSS_85, M12 VSS_62, M13 VSS_60, M14 VSS_75, M15 VSS_82, M16 VSS_83, M17 VSS_86, N3 VSS_89, N5 VSS_90, N6 VSS_91, N7 VSS_92, N8 VSS_93, N9 VSS_96, N10 VSS_97, N14 VSS_74, N15 VSS_94, N16 VSS_95, P4 VSS_100, P5 VSS_101, P6 VSS_102, P7 VSS_103, P8 VSS_104, P9 VSS_105, P10 VSS_106, P11 VSS_107, P12 VSS_108, P13 VSS_109, P14 VSS_110, P15 VSS_112, P16 VSS_111, R5 VSS_113, R6 VSS_114, R7 VSS_115, R8 VSS_116, R9 VSS_117, R10 VSS_118, R11 VSS_119, R12 VSS_120, R13 VSS_121, R14 VSS_122, R15 VSS_123, R16 VSS_124, R17 VSS_125, T3 VSS_126, T4 VSS_127, T5 VSS_128, T6 VSS_129, T7 VSS_130, T8 VSS_131, T9 VSS_132, T10 VSS_133, T11 VSS_134, T12 VSS_36, T14 VSS_136, T15 VSS_137, T16 VSS_138, T17 VSS_139, T18 VSS_140, U5 VSS_141, U14 VSS_142, U15 VSS_143, U16 VSS_144, U17 VSS_145, U18 VSS_146, V2 VSS_147, V5 VSS_148, V16 VSS_149, V17 VSS_150, V18 VSS_151, V19 VSS_152, W3 VSS_153, W4 VSS_135, W11 VSS_35, W17 VSS_99, W18 VSS_76
part D pins: U8 MIPI_CSI_VCCA_1V0, U9 MIPI_CSI_DP2, U10 MIPI_CSI_DN1, U11 MIPI_CSI_RBIAS, V8 MIPI_CSI_DN2, V9 MIPI_CSI_CLKN, V10 MIPI_CSI_DP1, V11 MIPI_CSI_DN0, W8 MIPI_CSI_DP3, W9 MIPI_CSI_CLKP, W10 MIPI_CSI_DP0, Y8 MIPI_CSI_DN3
part E pins: AA10 USB_OTG_DM, AA11 USB_RBIAS, AA12 USB_HOST_DP, U12 USB_AVDD_1V0, V12 USB_AVDD_1V8, W12 USB_AVDD_3V3, Y10 USB_OTG_DP, Y11 USB_ID, Y12 USB_HOST_DM, Y13 USB_DET
part F pins: U13 ADC_AVDD_1V8, V13 ADC_IN2, W13 ADC_IN0, W14 ADC_IN1
part G pins: AA13 I2S1_SDI/GPIO2_C5_d, AA14 I2S1_SCLK/GPIO2_C2_d, AA15 I2S1_LRCK/GPIO2_C1_d, W15 PDM_CLK0/GPIO2_C6_d, W16 VCCIO5, Y14 I2S1_MCLK/GPIO2_C3_d, Y15 I2S1_SDO/GPIO2_C4_d
part H pins: AA16 SDMMC0_D3/UART4_TX/JTAG_TMS/GPIO1_D5_u, AA17 SDMMC0_CMD/UART4_RTS/GPIO1_D7_u, AA18 SDMMC0_D0/UART2_TX_M0/GPIO1_D2_u, AA19 SDMMC0_CLKO/UART4_CTS/TEST_CLKO/GPIO1_D6_d, Y16 SDMMC0_D2/UART4_RX/JTAG_TCK/GPIO1_D4_u, Y17 SDMMC0_D1/UART2_RX_M0/GPIO1_D3_u, Y18 VCCIO2
part I pins: AA20 SDMMC0_DETN/GPIO0_A3_u, M18 PLL_AVDD_1V8, N17 AVSS, N18 PLL_AVDD_1V0, P17 PMU_VDD_1V0, T13 OTP_VCC_1V8, T21 GPIO0_A5_u, U19 PMUIO1, U20 OSC_24M_IN, U21 OSC_24M_OUT, V20 PMIC_SLEEP/GPIO0_A4_d, V21 GPIO0_A2_d, W19 TEST, W20 NPOR, W21 TSADC_SHUT/GPIO0_A6_d, Y19 GPIO0_A7_u, Y20 GPIO0_A1_d, Y21 REF_CLKO/GPIO0_A0_d
part J pins: M19 UART0_CTS/GPIO0_B4_u, N19 UART0_RTS/TEST_CLK1/GPIO0_B5_u, N20 UART0_TX/GPIO0_B2_d, N21 UART3_TX_M0/PWM1/GPIO0_C0_d, P18 UART0_RX/GPIO0_B3_d, P19 FLASH_VOLSEL/GPIO0_B6_u, P20 CLKIO_32K/GPIO0_C4_z, P21 I2C0_SDA/GPIO0_B1_u, R18 PWM0/OTG_DRV/GPIO0_B7_d, R19 UART3_RX_M0/PWM3/GPIO0_C1_d, R20 I2C1_SDA/UART3_RTS_M0/GPIO0_C3_u, R21 I2C0_SCL/GPIO0_B0_u, T19 PMUIO2, T20 I2C1_SCL/UART3_CTS_M0/GPIO0_C2_u
part K pins: H19 SDMMC1_CMD/GPIO1_C4_u, J19 UART1_RTS/GPIO1_C3_u, J20 UART1_CTS/GPIO1_C2_u, K19 VCCIO1, K20 SDMMC1_CLK/GPIO1_C5_d, K21 SDMMC1_D0/GPIO1_C6_u, L19 SDMMC1_D2/GPIO1_D0_u, L20 SDMMC1_D3/GPIO1_D1_u, L21 SDMMC1_D1/GPIO1_C7_u, M20 UART1_RX/GPIO1_C0_u, M21 UART1_TX/GPIO1_C1_u
part L pins: B21 FLASH_D7/EMMC_D7/GPIO1_A7_u, C20 FLASH_D6/EMMC_D6/GPIO1_A6_u, C21 FLASH_D2/EMMC_D2/SFC_SIO2/GPIO1_A2_u, D20 FLASH_D5/EMMC_D5/GPIO1_A5_u, D21 FLASH_D1/EMMC_D1/SFC_SIO1/GPIO1_A1_u, E18 FLASH_ALE/EMMC_RSTN/GPIO1_B3_d, E19 FLASH_D3/EMMC_D3/SFC_SIO3/GPIO1_A3_u, E20 FLASH_D0/EMMC_D0/SFC_SIO0/GPIO1_A0_u, E21 FLASH_D4/EMMC_D4/SFC_CSN0/GPIO1_A4_u, F19 FLASH_CS0/EMMC_PWREN/GPIO1_B0_u, G19 FLASH_DQS/EMMC_CMD/GPIO1_B2_u, G20 FLASH_RDY/EMMC_CLKOUT/SFC_CLK/GPIO1_B6_u, G21 FLASH_CLE/UART3_CTS_M1/SPI0_TXD/I2C3_SDA/GPIO1_B4_d, H18 FLASH_CS1/UART3_TX_M1/SPI0_CSN/GPIO1_B1_u, H20 FLASH_WRN/UART3_RTS_M1/SPI0_RXD/I2C3_SCL/GPIO1_B5_u, H21 FLASH_RDN/UART3_RX_M1/SPI0_CLK/GPIO1_B7_u, J18 VCCIO6
part M pins: A12 LVDS_TX3P/MIPI_TX_D3P/LCDC_DEN_M1, A14 LVDS_CLKP/MIPI_TX_CLKP/LCDC_D3_M1, A16 LVDS_TX1P/MIPI_TX_D1P/LCDC_D10_M1, A18 LCDC_D17/I2S0_8CH_SDI0/PWM7/TDM_SDI/GPIO3_C5_d, A20 LCDC_D12/I2S0_8CH_SDO1/GPIO3_C0_d, B12 LVDS_TX3N/MIPI_TX_D3N/LCDC_HSYNC_M1, B13 LVDS_TX2P/MIPI_TX_D2P/LCDC_D5_M1, B14 LVDS_CLKN/MIPI_TX_CLKN/LCDC_D4_M1, B15 LVDS_TX1N/MIPI_TX_D1N/LCDC_D1_M1, B16 LVDS_TX0N/MIPI_TX_D0N/LCDC_D11_M1, B17 LVDS_TX0P/MIPI_TX_D0P/LCDC_D8_M1, B18 LCDC_D6/GPIO3_B2_d, B19 LCDC_D15/I2S0_8CH_SCLKTX/PWM5/TDM_SCLK/GPIO3_C3_d, B20 LCDC_D13/I2S0_8CH_MCLK/GPIO3_C1_d, C13 LVDS_TX2N/MIPI_TX_D2N/LCDC_VSYNC_M1, C14 LCDC_D2/GPIO3_A6_d, C15 LCDC_D0/GPIO3_A4_d, C16 LCDC_D9_M0/I2S0_8CH_LRCKRX/GPIO3_B5_d, C17 LCDC_D7/I2S0_8CH_SDI1/GPIO3_B3_d, C18 LCDC_D16/I2S0_8CH_SDO0/PWM6/TDM_SDO/GPIO3_C4_d, C19 LCDC_D14/I2S0_8CH_LRCKTX/PWM4/TDM_LRCK/GPIO3_C2_d, D12 VCCIO4, D13 LCDC_D18/PDM_CLK0_M0/CIF_D10_M1/GPIO3_C6_d, D14 LCDC_D19/PDM_CLK1/CIF_D11_M1/GPIO3_C7_d, D15 LCDC_D20/PDM_SDI1/CIF_CLKOUT_M1/GPIO3_D0_d, D16 LCDC_D21/PDM_SDI2/CIF_VSYNC_M1/ISP_PRELIGHT_TRIG/GPIO3_D1_d, D17 LCDC_D22/PDM_SDI3/CIF_HREF_M1/ISP_FLASH_TRIG/GPIO3_D2_d, D18 LCDC_D23/PDM_SDI0_M0/CIF_CLKIN_M1/ISP_FL_TRIG/GPIO3_D3_d, D19 LCDC_CLK/GPIO3_A0_d, E12 MIPI_DSI_VCCA_3V3, E13 LCDC_HSYNC_M0/I2S2_2CH_MCLK/CIF_D0_M1/UART5_RX/GPIO3_A1_d, E14 LCDC_DEN_M0/I2S2_2CH_LRCK/CIF_D2_M1/UART5_CTS/GPIO3_A3_d, E15 LCDC_D1_M0/I2S2_2CH_SDI/CIF_D3_M1/UART5_RTS/GPIO3_A5_d, E16 LCDC_D3_M0/I2S2_2CH_SDO/CIF_D4_M1/GPIO3_A7_d, E17 LCDC_D4_M0/I2S0_8CH_SDI3/CIF_D5_M1/GPIO3_B0_d, F11 MIPI_DSI_VCCA_1V0, F12 MIPI_DSI_VCCA_1V8, F13 LCDC_VSYNC_M0/I2S2_2CH_SCLK/CIF_D1_M1/UART5_TX/GPIO3_A2_d, F17 LCDC_D5_M0/I2S0_8CH_SDI2/CIF_D6_M1/SPI1_CSN/GPIO3_B1_d, F18 LCDC_D8_M0/I2S0_8CH_SCLKRX/CIF_D7_M1/SPI1_TXD/GPIO3_B4_d, G17 LCDC_D11_M0/I2S0_8CH_SDO2/CIF_D9_M1/SPI1_CLK/GPIO3_B7_d, G18 LCDC_D10_M0/I2S0_8CH_SDO3/CIF_D8_M1/SPI1_RXD/GPIO3_B6_d
part N pins: H14 VDD_CPU_1, H15 VDD_CPU_2, H16 VDD_CPU_3, J14 VDD_CPU_4, J15 VDD_CPU_5, J16 VDD_CPU_6, K9 VDD_LOGIC_1, K10 VDD_LOGIC_3, K14 VDD_CPU_7, K15 VDD_CPU_8, K16 VDD_CPU_9, L9 VDD_LOGIC_2, L10 VDD_LOGIC_4, L11 VDD_LOGIC_9, M11 VDD_LOGIC_8, N11 VDD_LOGIC_5, N12 VDD_LOGIC_7, N13 VDD_LOGIC_6

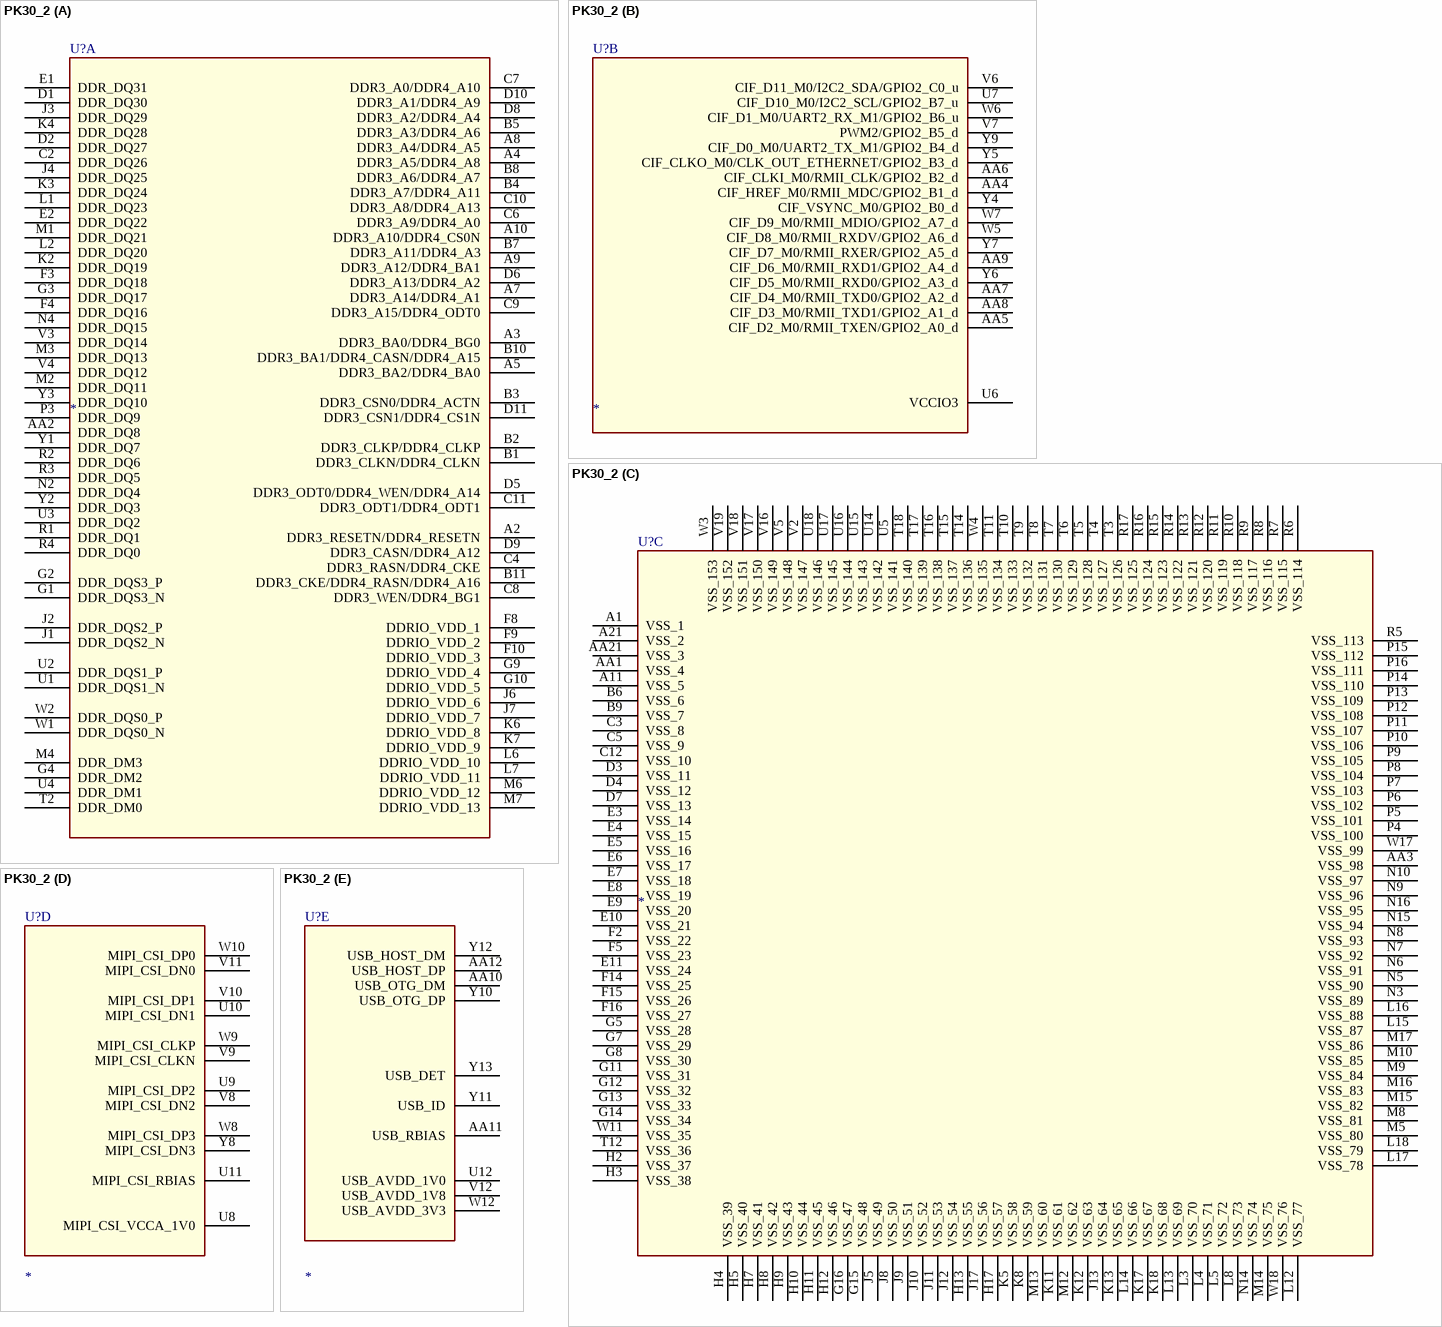
[diagram p124: symbol PK30_2]

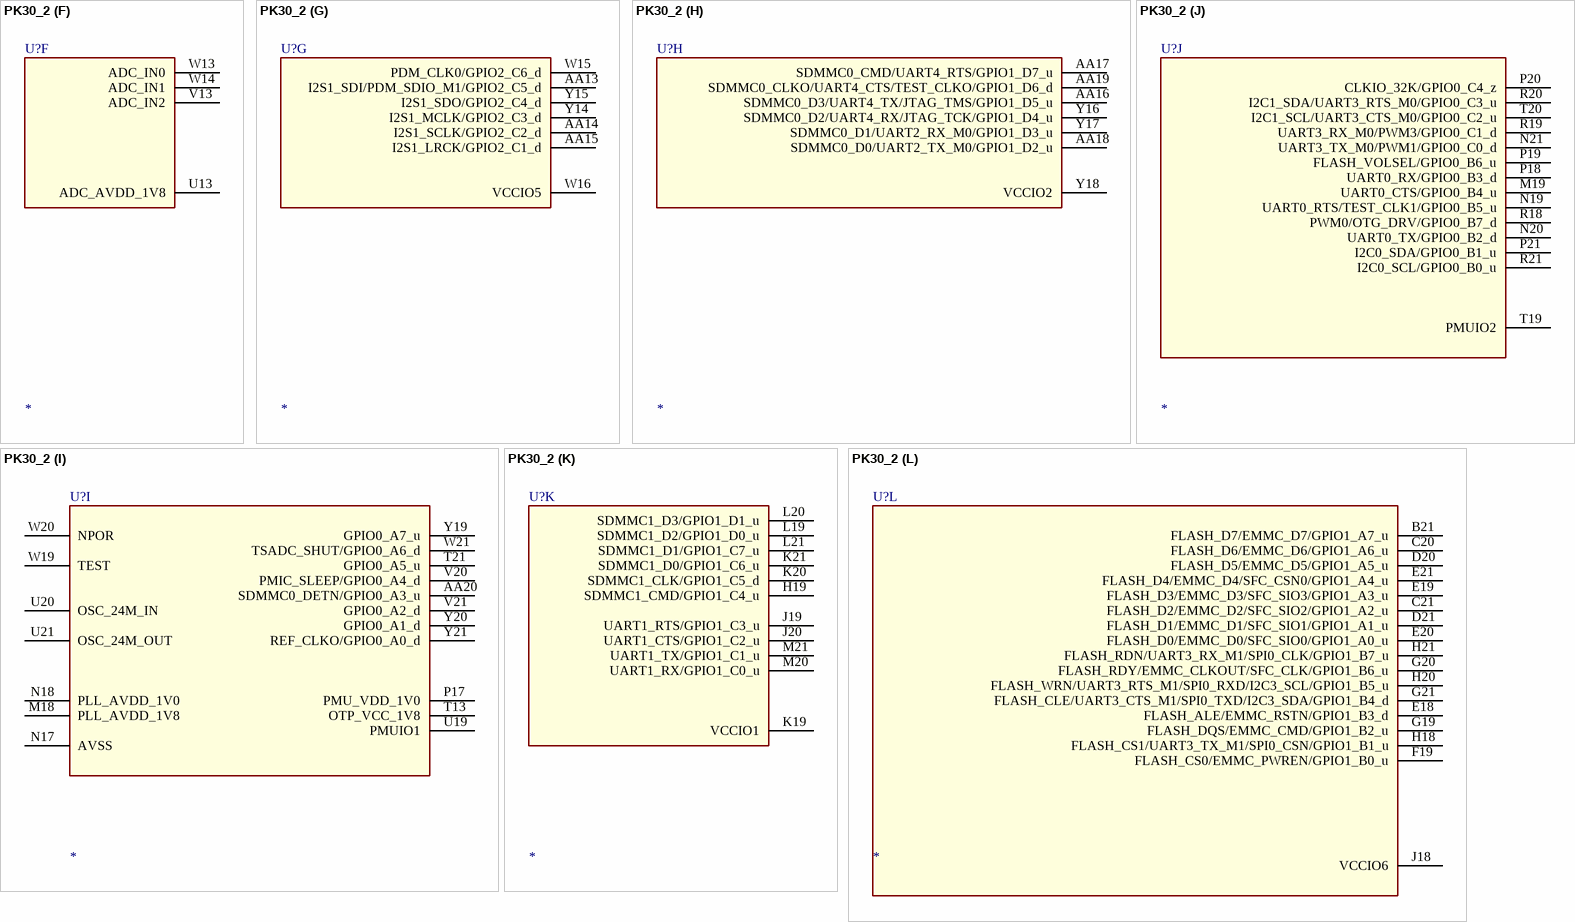
[diagram p125: symbol PK30_2]

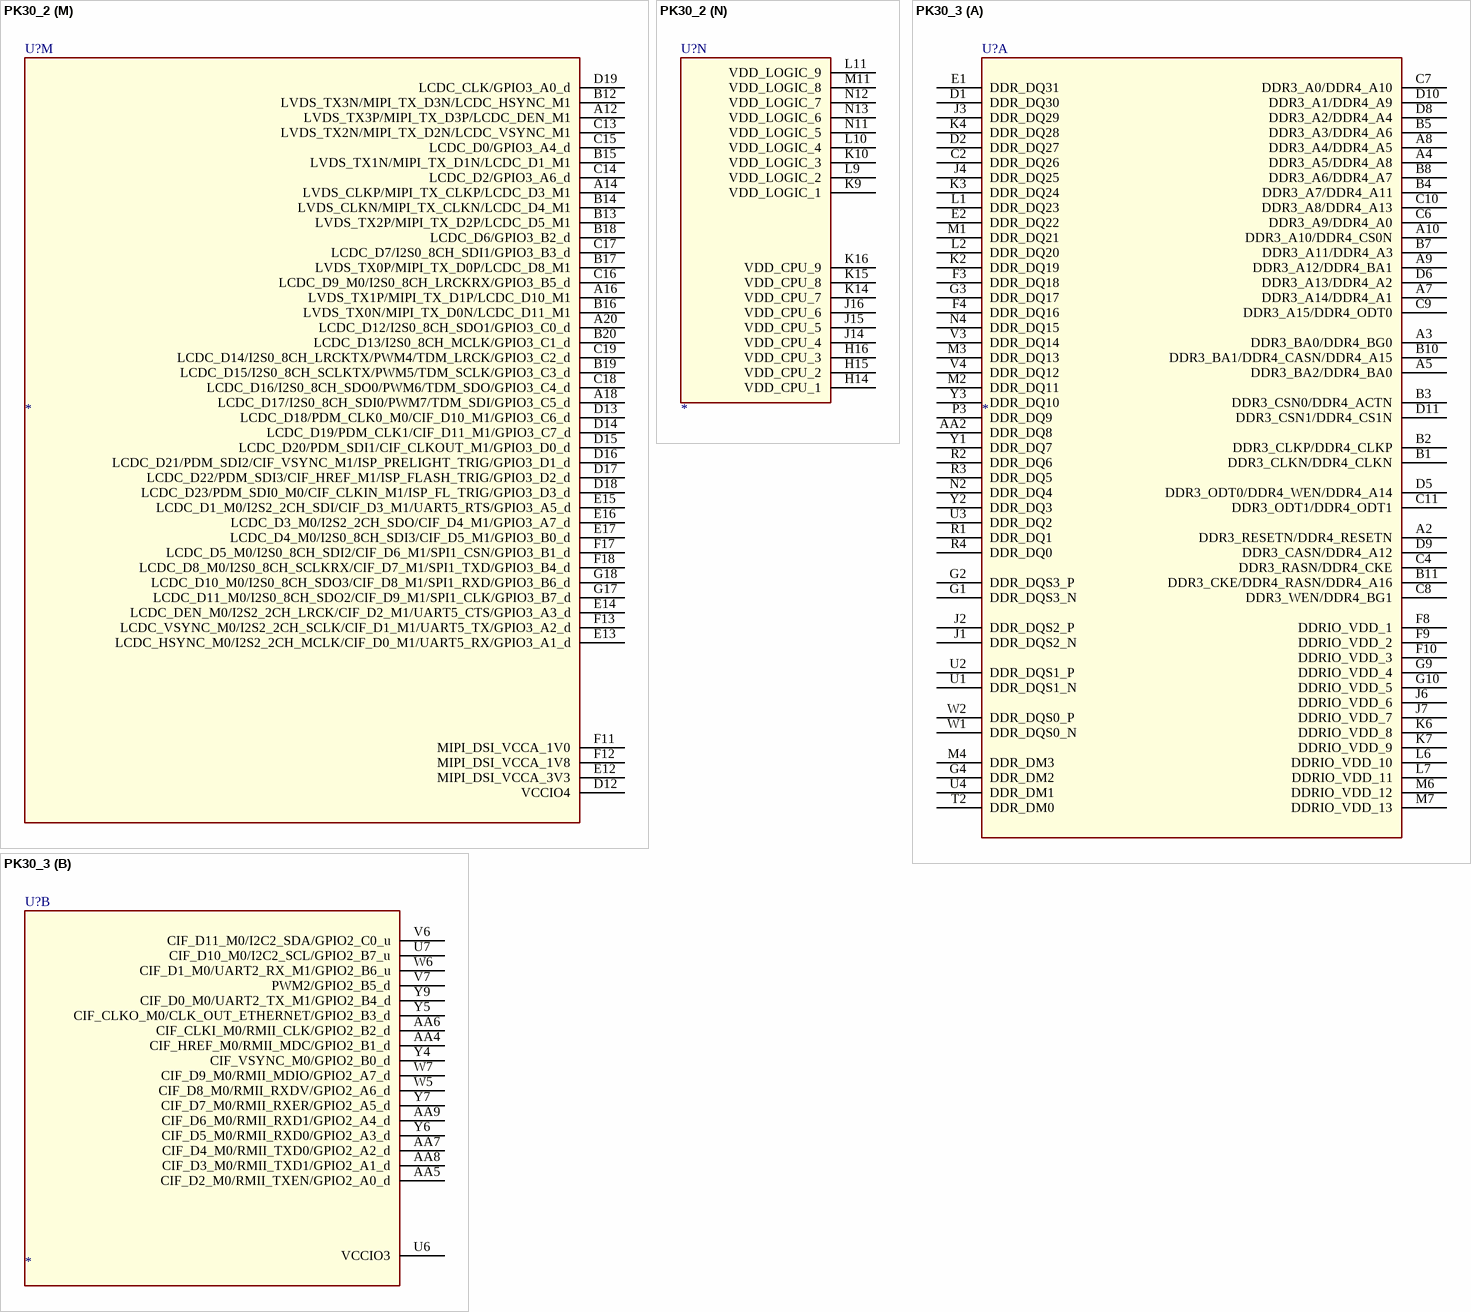
[diagram p126: symbols PK30_2 to PK30_3]